# Altium schematic symbol library 封装库.SchLib: 191 symbols (part 1 of 3)
Pins are listed as number, name and electrical type; pins without a type are passive.

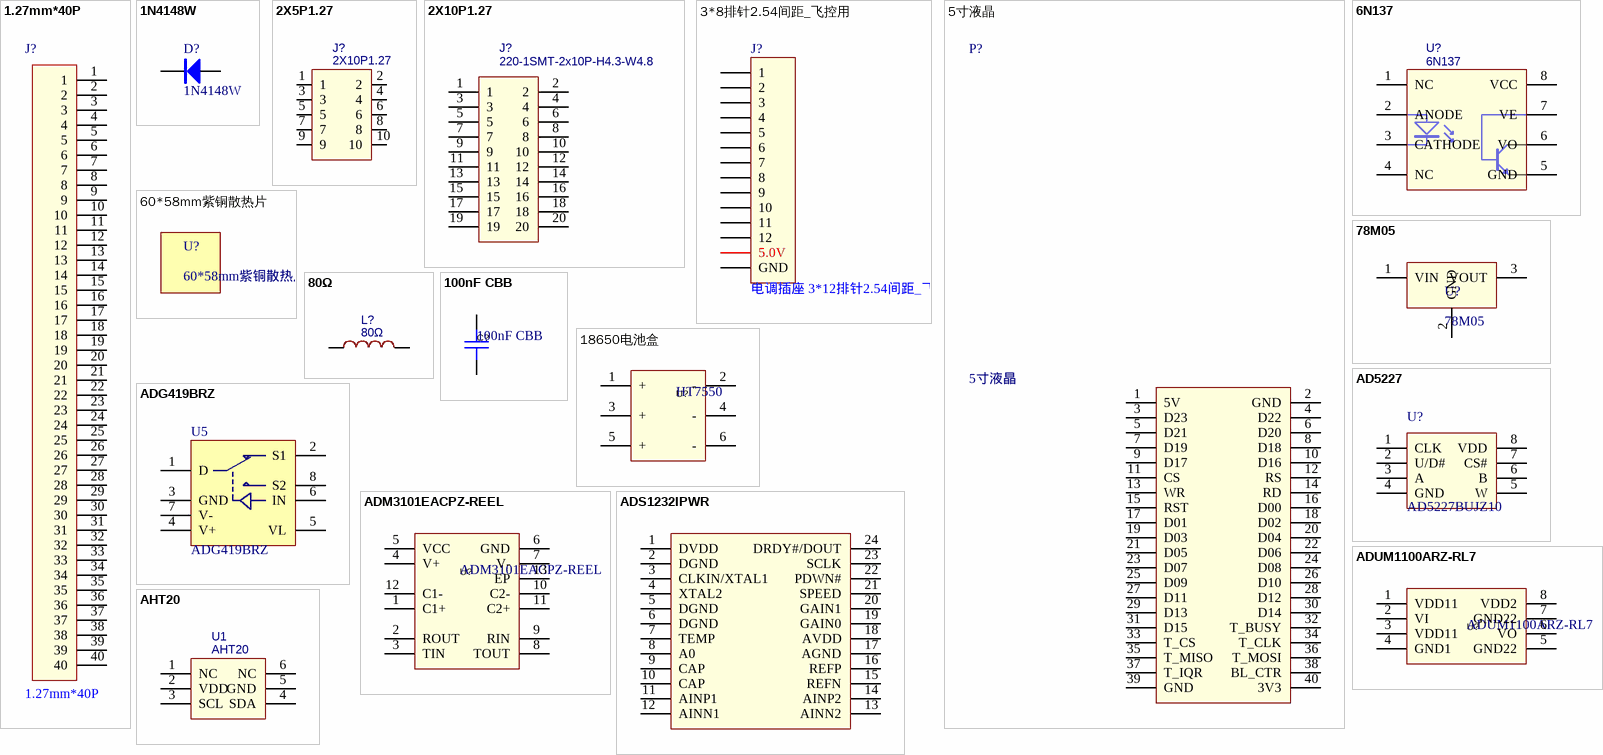
[diagram p0: symbols 1.27mm*40P to AHT20]

## 1.27mm*40P
designator J?
footprint HDR1.27-LI-40P (直插，脚距：1.27mm)
pins: 1, 2, 3, 4, 5, 6, 7, 8, 9, 10, 11, 12, 13, 14, 15, 16, 17, 18, 19, 20, 21, 22, 23, 24, 25, 26, 27, 28, 29, 30, 31, 32, 33, 34, 35, 36, 37, 38, 39, 40

## 1N4148W
designator D?
整流二极管; 版权归属: 源创客; BOM名称: 整流二极管; 学习资源: www.ooocke.com
footprint 1N4148W
pins: 1 A, 2 K

## 2X5P1.27
designator J?, comment 2X10P1.27
BOM_Manufacturer: 华宇创; BOM_Manufacturer Part: 2343U-205CNG1MNT01; Contributor: LCSC; BOM_Supplier: LCSC; BOM_Supplier Part: C350283; BOM_JLCPCB Part Class: Extended Part; spicePre: U; spiceSymbolName: 2343U-205CNG1MNT01
footprint HDR-SMD_10P-P1.27mm
pins: 1, 2, 3, 4, 5, 6, 7, 8, 9, 10

## 2X10P1.27
designator J?, comment 220-1SMT-2x10P-H4.3-W4.8
BOM_Manufacturer: Ckmtw; Contributor: LCSC; BOM_Supplier: LCSC; BOM_Manufacturer Part: 220-1SMT-2x10P-H4.3-W4.8; BOM_Supplier Part: C124397; BOM_JLCPCB Part Class: Extended Part; spicePre: H; spiceSymbolName: 220-1SMT-2x10P-H4.3-W4.8
footprint HDR-SMD_20P-P1.27-V-F-R2-C10-S1.27-LS5.5-1
pins: 1, 2, 3, 4, 5, 6, 7, 8, 9, 10, 11, 12, 13, 14, 15, 16, 17, 18, 19, 20

## 3*8排针2.54间距_飞控用
designator J?, comment 电调插座 3*12排针2.54间距_飞控用
footprint 3*8排针_2.54间距_飞控用
pins: 1, 2, 3, 4, 5, 6, 7, 8, 9, 10, 11, 12, 13 5.0V, 14 GND

## 5寸液晶
designator P?
2.54 2x20P
footprint 5寸液晶屏
pins: 1 5V, 2 GND, 3 D23, 4 D22, 5 D21, 6 D20, 7 D19, 8 D18, 9 D17, 10 D16, 11 CS, 12 RS, 13 WR, 14 RD, 15 RST, 16 D00, 17 D01, 18 D02, 19 D03, 20 D04, 21 D05, 22 D06, 23 D07, 24 D08, 25 D09, 26 D10, 27 D11, 28 D12, 29 D13, 30 D14, 31 D15, 32 T_BUSY, 33 T_CS, 34 T_CLK, 35 T_MISO, 36 T_MOSI, 37 T_IQR, 38 BL_CTR, 39 GND, 40 3V3

## 6N137
designator U?
BOM_Manufacturer: CT Micro International; BOM_Manufacturer Part: 6N137(S)(T1); Contributor: LCSC; BOM_Supplier: LCSC; BOM_Supplier Part: C191867; BOM_JLCPCB Part Class: Extended Part; spicePre: U; spiceSymbolName: 6N137(S)(T1)
footprint 6N137
pins: 1 NC, 2 ANODE, 3 CATHODE, 4 NC, 5 GND, 6 VO, 7 VE, 8 VCC

## 60*58mm紫铜散热片
designator U?
footprint 散热片

## 78M05
designator U?
footprint TO-252
pins: 1 VIN, 2 GND, 3 VOUT

## 80Ω
designator L?
UPZ2012D800-4R0TF; BOM_Manufacturer: Sunlord; nameAlias: Value; Contributor: LCSC; BOM_Supplier: LCSC; BOM_Manufacturer Part: UPZ2012D800-4R0TF; BOM_Supplier Part: C145060; BOM_JLCPCB Part Class: Extended Part; spicePre: L; spiceSymbolName: UPZ2012D800-4R0TF
footprint R0805
pins: 1, 2

## 100nF CBB
designator C?
Symbol: KP104J2J1501; Designer: U?; Device: KP104J2J1501
footprint 100nF CBB
pins: 1, 2

## 18650电池盒
designator U?, comment HT7550
Manufacturer: HXY MOSFET(华轩阳电子); Symbol: HT7550_C5451679; Add into BOM: yes; Output Type: 固定; Output Polarity: 正; Number of Outputs: 1; Maximum Input Voltage: 30V; Output Voltage: 5V; Output Current: 100mA; Name: HT7550; Device: HT7550_C5451679; LCSC Part Name: Vin:30V Vout:5.0V 100mA HT50; Supplier Part: C5451679; Manufacturer Part: HT7550; Supplier Footprint: SOT-23(TO-236); JLCPCB Part Class: Extended Part; Datasheet: https://atta.szlcsc.com/upload/public/pdf/source/20230427/EDFD9A298EC49F60311FA1BA47D94413.pdf; Supplier: LCSC; Convert to PCB: yes
footprint 18650电池盒-3节
pins: 1 +, 2 -, 3 +, 4 -, 5 +, 6 -

## AD5227
designator U?, comment AD5227BUJZ10
64-position digital potentiometer
footprint AD5227-TSOT-23-8
pins: 1 CLK, 2 U/D#, 3 A, 4 GND, 5 W, 6 B, 7 CS#, 8 VDD

## ADG419BRZ
designator U5
footprint ADG419BRZ-SOIC-8 (SOIC, 8-Leads, Body 5.0x4.0mm (max), Pitch 1.27mm, IPC Low Density)
pins: 1 D, 2 S1, 3 GND (power), 4 V+ (power), 5 VL (power), 6 IN, 7 V- (power), 8 S2

## ADM3101EACPZ-REEL
designator U?
Manufacturer: ADI(亚德诺)/LINEAR(凌特); Add into BOM: yes; Name: ADM3101EACPZ-REEL; Symbol: ADM3101EACPZ-REEL; Device: ADM3101EACPZ-REEL; LCSC Part Name: ADM3101EACPZ-REEL; Supplier Part: C514336; Manufacturer Part: ADM3101EACPZ-REEL; Supplier Footprint: LFCSP-12; JLCPCB Part Class: Extended Part; Datasheet: https://atta.szlcsc.com/upload/public/pdf/source/20200415/C514336_C2354D88DB0D2D31503B641F84715F51.pdf; Supplier: LCSC; Convert to PCB: yes
footprint LFCSP-12
pins: 1 C1+, 2 ROUT, 3 TIN, 4 V+, 5 VCC, 6 GND, 7 V-, 8 TOUT, 9 RIN, 10 C2-, 11 C2+, 12 C1-, 13 EP

## ADS1232IPWR
designator U?  (value not drawn)
Manufacturer: TI(德州仪器); Add into BOM: yes; Interface: SPI; differential input: 是; number of channels: 2; sampling frequency: 80Hz; resolution: 24位; Supply Voltage: 2.7V~5.3V; Name: ADS1232IPWR; Symbol: ADS1232IPW; Device: ADS1232IPWR; LCSC Part Name: ADS1232IPWR; Supplier Part: C27919; Manufacturer Part: ADS1232IPWR; Supplier Footprint: TSSOP-24; JLCPCB Part Class: Extended Part; Datasheet: http://www.ti.com/cn/lit/gpn/ads1232; Supplier: LCSC; Convert to PCB: yes; Operating Temperature: -40℃~+105℃
footprint TSSOP-24
pins: 1 DVDD, 2 DGND, 3 CLKIN/XTAL1, 4 XTAL2, 5 DGND, 6 DGND, 7 TEMP, 8 A0, 9 CAP, 10 CAP, 11 AINP1, 12 AINN1, 13 AINN2, 14 AINP2, 15 REFN, 16 REFP, 17 AGND, 18 AVDD, 19 GAIN0, 20 GAIN1, 21 SPEED, 22 PDWN#, 23 SCLK, 24 DRDY#/DOUT

## ADUM1100ARZ-RL7
designator U?
Manufacturer: ADI(亚德诺)/LINEAR(凌特); Add into BOM: yes; Isolation Technology: 磁隔离; Number of Channels: 1; Reverse channel: 0; Voltage Isolation or Not: 不带电压隔离; Isolation voltage: 2500Vrms; Data Rate: 25Mbps; Supply Voltage: 3V~5.5V; Name: ADUM1100ARZ-RL7; Symbol: ADUM1100ARZ-RL7; Device: ADUM1100ARZ-RL7; LCSC Part Name: ADUM1100ARZ-RL7; Supplier Part: C201193; Manufacturer Part: ADUM1100ARZ-RL7; Supplier Footprint: SOIC-8; JLCPCB Part Class: Extended Part; Datasheet: https://atta.szlcsc.com/upload/public/pdf/source/20180410/C201193_34207E6A0CC594F3AB0D0F551CC07A5C.pdf; Supplier: LCSC; Convert to PCB: yes; Applications: 通用; Forward Channel: 1; Operating Temperature: -
footprint SOIC-8
pins: 1 VDD11, 2 VI, 3 VDD11, 4 GND1, 5 GND22, 6 VO, 7 GND22, 8 VDD2

## AHT20
designator U1
C2757850,温湿度传感器; BOM_Manufacturer: 广州奥松; Contributor: LCSC; BOM_Supplier: LCSC; BOM_Supplier Part: C2757850; BOM_Manufacturer Part: AHT20; link: https://atta.szlcsc.com//upload/public/pdf/source/20200407/C503357_487829B2F97386053400E2E73B0ABB4D.pdf; BOM_JLCPCB Part Class: Extended Part; spicePre: U; spiceSymbolName: AHT20_C2757850
footprint AHT20
pins: 1 NC, 2 VDD, 3 SCL, 4 SDA, 5 GND, 6 NC

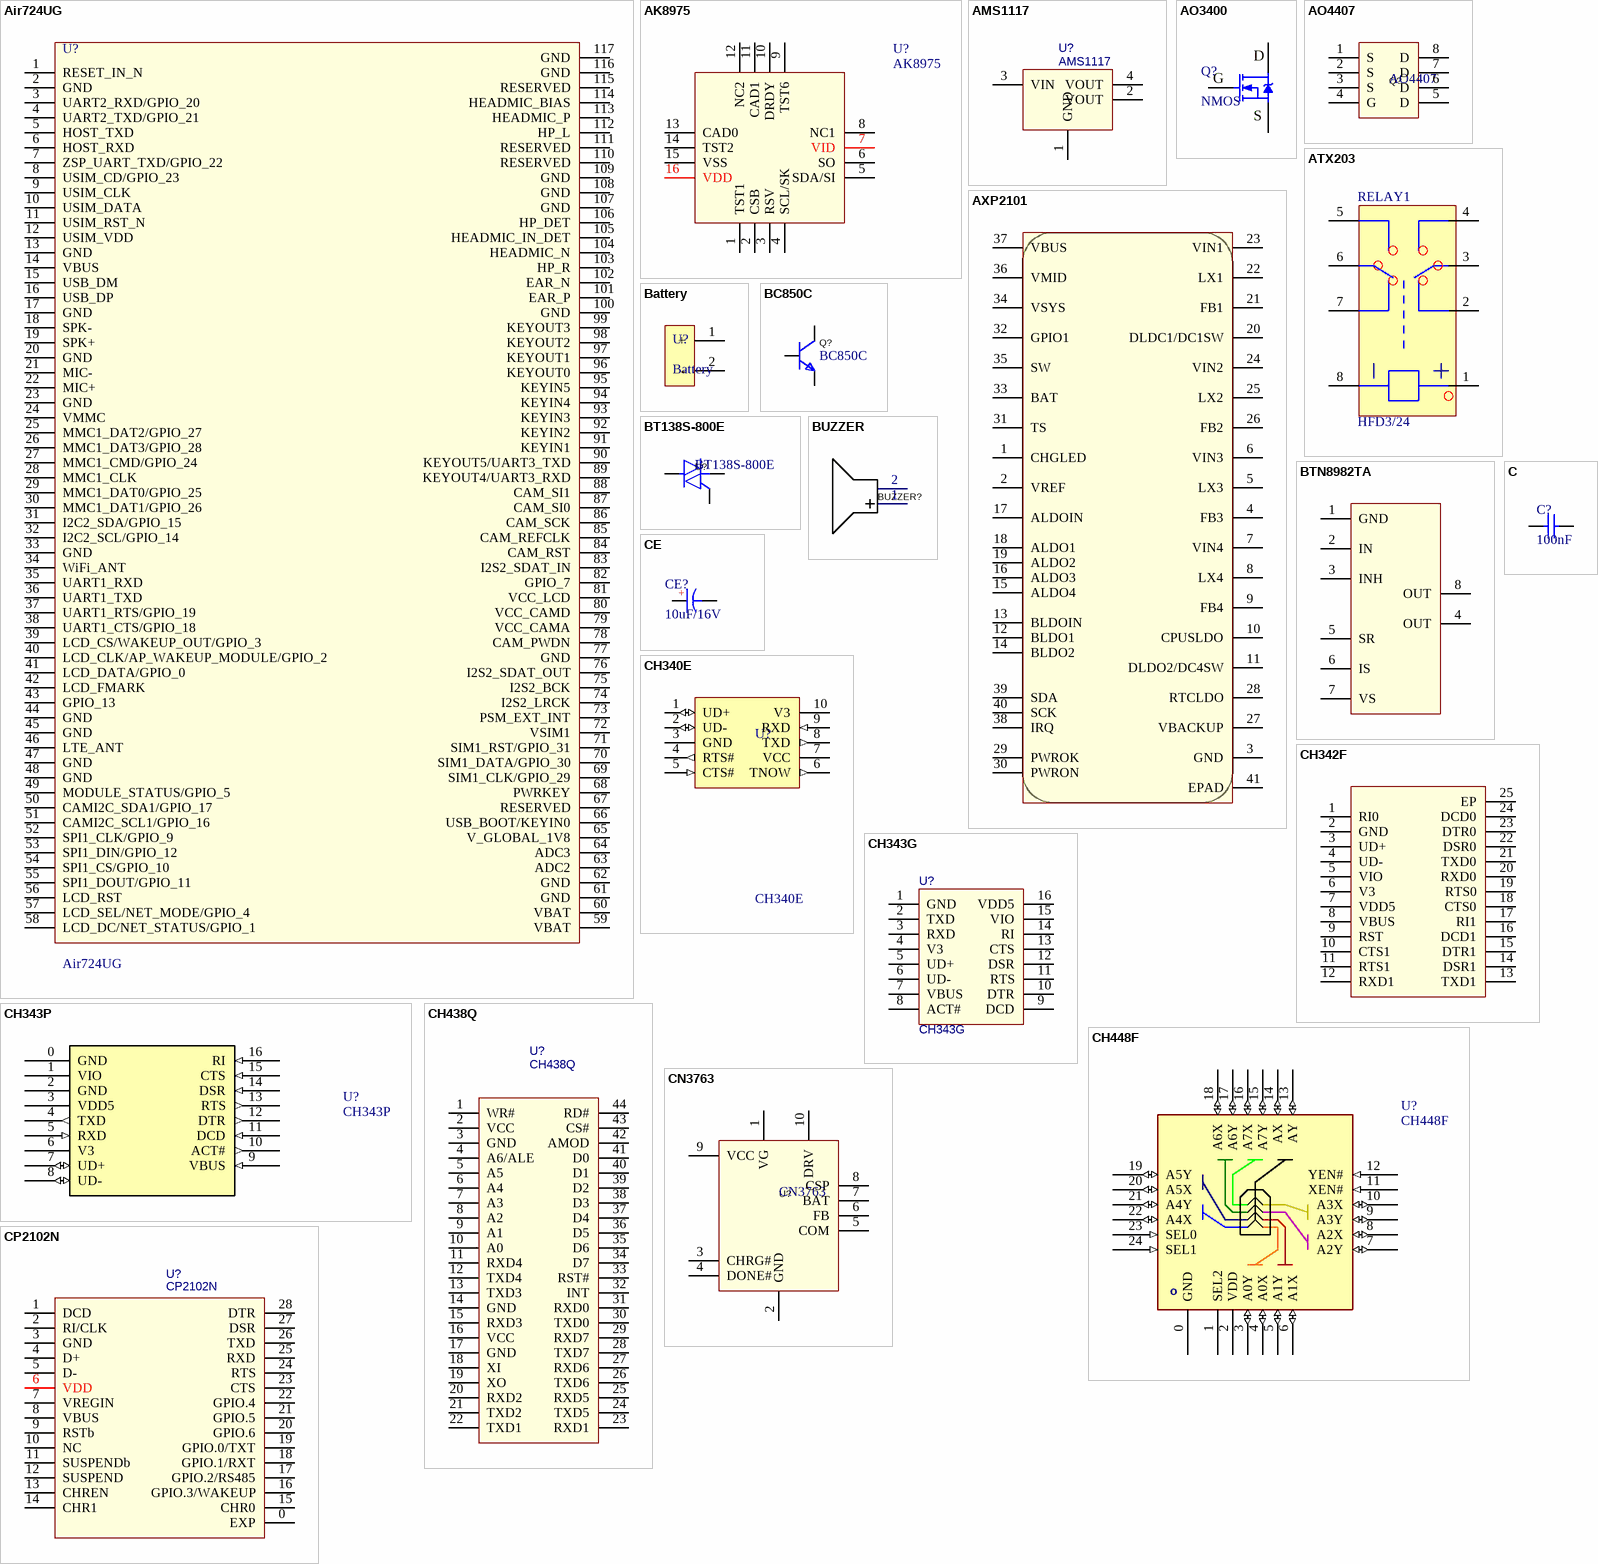
[diagram p1: symbols Air724UG to CP2102N]

## Air724UG
designator U?
Manufacturer: Luat(合宙); Symbol: AIR724UG-NA; Add into BOM: yes; Device: Air724UG-NA; LCSC Part Name: 合宙Luat 4G Cat.1模组Air724UG; Supplier Part: C559028; Manufacturer Part: Air724UG-NA; Supplier Footprint: SMD; JLCPCB Part Class: 扩展库; Supplier: LCSC; Convert to PCB: yes
footprint AIR724UG
pins: 1 RESET_IN_N, 2 GND, 3 UART2_RXD/GPIO_20, 4 UART2_TXD/GPIO_21, 5 HOST_TXD, 6 HOST_RXD, 7 ZSP_UART_TXD/GPIO_22, 8 USIM_CD/GPIO_23, 9 USIM_CLK, 10 USIM_DATA, 11 USIM_RST_N, 12 USIM_VDD, 13 GND, 14 VBUS, 15 USB_DM, 16 USB_DP, 17 GND, 18 SPK-, 19 SPK+, 20 GND, 21 MIC-, 22 MIC+, 23 GND, 24 VMMC, 25 MMC1_DAT2/GPIO_27, 26 MMC1_DAT3/GPIO_28, 27 MMC1_CMD/GPIO_24, 28 MMC1_CLK, 29 MMC1_DAT0/GPIO_25, 30 MMC1_DAT1/GPIO_26, 31 I2C2_SDA/GPIO_15, 32 I2C2_SCL/GPIO_14, 33 GND, 34 WiFi_ANT, 35 UART1_RXD, 36 UART1_TXD, 37 UART1_RTS/GPIO_19, 38 UART1_CTS/GPIO_18, 39 LCD_CS/WAKEUP_OUT/GPIO_3, 40 LCD_CLK/AP_WAKEUP_MODULE/GPIO_2, 41 LCD_DATA/GPIO_0, 42 LCD_FMARK, 43 GPIO_13, 44 GND, 45 GND, 46 LTE_ANT, 47 GND, 48 GND, 49 MODULE_STATUS/GPIO_5, 50 CAMI2C_SDA1/GPIO_17, 51 CAMI2C_SCL1/GPIO_16, 52 SPI1_CLK/GPIO_9, 53 SPI1_DIN/GPIO_12, 54 SPI1_CS/GPIO_10, 55 SPI1_DOUT/GPIO_11, 56 LCD_RST, 57 LCD_SEL/NET_MODE/GPIO_4, 58 LCD_DC/NET_STATUS/GPIO_1, 59 VBAT, 60 VBAT, 61 GND, 62 GND, 63 ADC2, 64 ADC3, 65 V_GLOBAL_1V8, 66 USB_BOOT/KEYIN0, 67 RESERVED, 68 PWRKEY, 69 SIM1_CLK/GPIO_29, 70 SIM1_DATA/GPIO_30, 71 SIM1_RST/GPIO_31, 72 VSIM1, 73 PSM_EXT_INT, 74 I2S2_LRCK, 75 I2S2_BCK, 76 I2S2_SDAT_OUT, 77 GND, 78 CAM_PWDN, 79 VCC_CAMA, 80 VCC_CAMD, 81 VCC_LCD, 82 GPIO_7, 83 I2S2_SDAT_IN, 84 CAM_RST, 85 CAM_REFCLK, 86 CAM_SCK, 87 CAM_SI0, 88 CAM_SI1, 89 KEYOUT4/UART3_RXD, 90 KEYOUT5/UART3_TXD, 91 KEYIN1, 92 KEYIN2, 93 KEYIN3, 94 KEYIN4, 95 KEYIN5, 96 KEYOUT0, 97 KEYOUT1, 98 KEYOUT2, 99 KEYOUT3, 100 GND, 101 EAR_P, 102 EAR_N, 103 HP_R, 104 HEADMIC_N, 105 HEADMIC_IN_DET, 106 HP_DET, 107 GND, 108 GND, 109 GND, 110 RESERVED, 111 RESERVED, 112 HP_L, 113 HEADMIC_P, 114 HEADMIC_BIAS, 115 RESERVED, 116 GND, 117 GND

## AK8975
designator U?
磁力计
footprint AK8975
pins: 1 TST1 "Open", 2 CSB, 3 RSV "Open", 4 SCL/SK, 5 SDA/SI, 6 SO, 7 VID, 8 NC1 "Open", 9 TST6 "Open", 10 DRDY "concent to interrupt or open", 11 CAD1 "Slave address select", 12 NC2 "Open", 13 CAD0 "Slave address select", 14 TST2 "open", 15 VSS "link to gnd", 16 VDD

## AMS1117
designator U?
BOM_Manufacturer: HX(恒佳兴); BOM_Manufacturer Part: AMS1117A-ADJ; Contributor: lcsc; BOM_Supplier: LCSC; BOM_Supplier Part: C2984864; spicePre: U; spiceSymbolName: AMS1117A-ADJ
footprint SOT-223 (SOT223, 4-Leads, Body 6.5x3.5mm, Pitch 2.3mm, Lead Span 7mm, IPC Medium Density)
pins: 1 GND, 2 VOUT, 3 VIN, 4 VOUT

## AO3400
designator Q?, comment NMOS
N沟道 30V/4.2A; BOM名称: 场效应管; 联系卖家，免费查找封装: 唯一出售店铺网址https://shop463601444.taobao.com; 参数: N沟道 30V/4.2A
footprint AO3400-SOT-23-3
pins: 1 G, 2 S, 3 D

## AO4407
designator Q?
Manufacturer: UMW(友台半导体); Name: AO4407A; Symbol: AO4407A_C2841482; Add into BOM: yes; Device: AO4407A_C2841482; LCSC Part Name: AO4407A; Supplier Part: C2841482; Manufacturer Part: AO4407A; Supplier Footprint: SOP-8; JLCPCB Part Class: Extended Part; Datasheet: https://atta.szlcsc.com/upload/public/pdf/source/20220926/8EBB8ABDBC276CD6D410CF8B1BF429E7.pdf; Supplier: LCSC; Convert to PCB: yes; Type: -; Drain Source Voltage (Vdss): -; Continuous Drain Current (Id): -; Power Dissipation (Pd): -; Drain Source On Resistance (RDS(on)@Vgs,Id): -; Gate Threshold Voltage (Vgs(th)@Id): -; Total Gate Charge (Qg@Vgs): -; Input Capacitance (Ciss@Vds): -; Reverse Transfer Capacitance (Crss@Vds): -
footprint AO4407 (Footprint not found)
pins: 1 S, 2 S, 3 S, 4 G, 5 D, 6 D, 7 D, 8 D

## ATX203
designator RELAY1, comment HFD3/24
footprint ATX203 (Footprint not found)
pins: 1 coila+, 2 coila+, 3 N0, 4 CENT, 5 CENT, 6 NC, 7 NC, 8 coila-

## AXP2101
designator U?  (value not drawn)
Add into BOM: yes; Symbol: AXP2101; Device: AXP2101; Convert to PCB: yes
footprint AXP2101 (QFN, 40-Leads, Body 5.00x5.00mm, Pitch 0.40mm, Thermal Pad 3.40x3.40mm, IPC Medium Density)
pins: 1 CHGLED, 2 VREF, 3 GND, 4 FB3, 5 LX3, 6 VIN3, 7 VIN4, 8 LX4, 9 FB4, 10 CPUSLDO, 11 DLDO2/DC4SW, 12 BLDO1, 13 BLDOIN, 14 BLDO2, 15 ALDO4, 16 ALDO3, 17 ALDOIN, 18 ALDO1, 19 ALDO2, 20 DLDC1/DC1SW, 21 FB1, 22 LX1, 23 VIN1, 24 VIN2, 25 LX2, 26 FB2, 27 VBACKUP, 28 RTCLDO, 29 PWROK, 30 PWRON, 31 TS, 32 GPIO1, 33 BAT, 34 VSYS, 35 SW, 36 VMID, 37 VBUS, 38 IRQ, 39 SDA, 40 SCK, 41 EPAD

## Battery
designator U?
footprint 锂电池焊盘
pins: 1 +, 2 -

## BC850C
designator Q?
footprint BC850C-SOT23-3
pins: 1 B, 2 E, 3 C

## BT138S-800E
designator U?
Designer: U?; Symbol: BT138S-800E; Device: BT138S-800E
footprint BT138S-800E
pins: 1 T1, 2 T2, 3 G

## BTN8982TA
designator U?  (value not drawn)
Manufacturer: Infineon(英飞凌); Symbol: BTN8982TAAUMA1; Add into BOM: yes; Name: BTN8982TA; Device: BTN8982TA; LCSC Part Name: BTN8982TA; Supplier Part: C74175; Manufacturer Part: BTN8982TA; Supplier Footprint: TO-263-7; JLCPCB Part Class: Extended Part; Datasheet: https://atta.szlcsc.com/upload/public/pdf/source/20220204/C2653440_702986052287C1B0960238BAE5FC3054.pdf; Supplier: LCSC; Convert to PCB: yes
footprint BTN8982
pins: 1 GND, 2 IN, 3 INH, 4 OUT, 5 SR, 6 IS, 7 VS, 8 OUT

## BUZZER
designator BUZZER?, comment YS-MBZ12085C05R42  (value not drawn)
Manufacturer: Fengming(锋鸣电子); Name: 2048Hz; Add into BOM: yes; Oscillator Circuit: 无源(外部驱动); Technology Type: 电磁式; Rated Voltage: 5V; Operating Voltage: 3V~7V; Value: 2048Hz; Sound Pressure Level (SPL): 85dB@5V,10cm; Symbol: YS-MBZ12085C05R42; Device: YS-MBZ12085C05R42; LCSC Part Name: 电磁式无源分体蜂鸣器5V; Supplier Part: C409842; Manufacturer Part: YS-MBZ12085C05R42; Supplier Footprint: 插件,D=12mm; JLCPCB Part Class: Extended Part; Datasheet: https://atta.szlcsc.com/upload/public/pdf/source/20191217/C409842_D981B29AAA35E8D23D61A24851812BB0.pdf; Supplier: LCSC; Convert to PCB: yes; Diameter (φD): 12mm; Height: 8.7mm
footprint beep (Footprint not found)
pins: 1 +, 2 -

## C
designator C?, comment 100nF
贴片电容; BOM名称: 无极性贴片电容; 联系卖家，免费查找封装: 唯一出售店铺网址https://shop463601444.taobao.com
footprint 0603-C
footprint 0805-C
footprint 1206-C
footprint 0402-C
footprint 1210-C (Chip Resistor, Body 3.2x2.5mm, IPC Medium Density)
footprint CBB212G104J
pins: 1, 2

## CE
designator CE?, comment 10uF/16V
直插电解电容; 联系卖家，免费查找封装: 唯一出售店铺网址https://shop463601444.taobao.com; BOM名称: 直插电解电容
footprint CE-3.5*8*11.5 (脚距3.5mm直径8mm高度11.5mm                   联系卖家 免费查找封装)
footprint CE-5.0*10*20-H (脚距5mm直径10mm高度20mm)
pins: 1, 2
text: +

## CH340E
designator U?
USB to TTL Serial / UART
footprint CH340E
pins: 1 UD+ (io), 2 UD- (io), 3 GND (power), 4 RTS# (out), 5 CTS# (in), 6 TNOW (out), 7 VCC (power), 8 TXD (out), 9 RXD (in), 10 V3 (power)

## CH342F
designator U?  (value not drawn)
Manufacturer: WCH(南京沁恒); Add into BOM: yes; Name: CH342F; Symbol: CH342F; Device: CH342F; LCSC Part Name: CH342F; Supplier Part: C2841530; Manufacturer Part: CH342F; Supplier Footprint: QFN24_4X4; JLCPCB Part Class: Extended Part; Datasheet: https://atta.szlcsc.com/upload/public/pdf/source/20211010/C2841530_D42D355CB13BEB69D3F27EE40180C477.pdf; Supplier: LCSC; Convert to PCB: yes
footprint CH342F
pins: 1 RI0, 2 GND, 3 UD+, 4 UD-, 5 VIO, 6 V3, 7 VDD5, 8 VBUS, 9 RST, 10 CTS1, 11 RTS1, 12 RXD1, 13 TXD1, 14 DSR1, 15 DTR1, 16 DCD1, 17 RI1, 18 CTS0, 19 RTS0, 20 RXD0, 21 TXD0, 22 DSR0, 23 DTR0, 24 DCD0, 25 EP

## CH343G
designator U?
BOM_Manufacturer: null; Contributor: LCSC; BOM_Supplier: LCSC; BOM_Supplier Part: C2844153; BOM_Manufacturer Part: CH343G; BOM_JLCPCB Part Class: Extended Part; spicePre: U; spiceSymbolName: CH343G
footprint ch343G (10.3*6.2*1.8mm（长宽高）)
pins: 1 GND, 2 TXD, 3 RXD, 4 V3, 5 UD+, 6 UD-, 7 VBUS, 8 ACT#, 9 DCD, 10 DTR, 11 RTS, 12 DSR, 13 CTS, 14 RI, 15 VIO, 16 VDD5

## CH343P
designator U?
USB to high speed enhanced TTL Serial / UART
footprint QFN16_3X3 (Footprint not found)
pins: 0 GND (power), 1 VIO (power), 2 GND (power), 3 VDD5 (power), 4 TXD (out), 5 RXD (in), 6 V3 (power), 7 UD+ (io), 8 UD- (io), 9 VBUS (in), 10 ACT# (out), 11 DCD (in), 12 DTR (out), 13 RTS (out), 14 DSR (in), 15 CTS (in), 16 RI (in)

## CH438Q
designator U?
可拓展8个串口的串口拓展芯片; BOM_Manufacturer: WCH; BOM_Supplier: LCSC; BOM_Manufacturer Part: CH438Q; BOM_Supplier Part: C100039; BOM_JLCPCB Part Class: Extended Part; spicePre: U; spiceSymbolName: CH438Q
footprint CH438Q
pins: 1 WR#, 2 VCC, 3 GND, 4 A6/ALE, 5 A5, 6 A4, 7 A3, 8 A2, 9 A1, 10 A0, 11 RXD4, 12 TXD4, 13 TXD3, 14 GND, 15 RXD3, 16 VCC, 17 GND, 18 XI, 19 XO, 20 RXD2, 21 TXD2, 22 TXD1, 23 RXD1, 24 TXD5, 25 RXD5, 26 TXD6, 27 RXD6, 28 TXD7, 29 RXD7, 30 TXD0, 31 RXD0, 32 INT, 33 RST#, 34 D7, 35 D6, 36 D5, 37 D4, 38 D3, 39 D2, 40 D1, 41 D0, 42 AMOD, 43 CS#, 44 RD#

## CH448F
designator U?
USB2.0 mux 8:1 / 16:1 Differential Switch, DPOT with dual enable
footprint QFN24_4X4
pins: 0 GND (power), 1 SEL2 (power), 2 VDD (power), 3 A0Y (io), 4 A0X (io), 5 A1Y (io), 6 A1X (io), 7 A2Y (io), 8 A2X (io), 9 A3Y (io), 10 A3X (io), 11 XEN# (in), 12 YEN# (in), 13 AY (io), 14 AX (io), 15 A7Y (io), 16 A7X (io), 17 A6Y (io), 18 A6X (io), 19 A5Y (io), 20 A5X (io), 21 A4Y (io), 22 A4X (io), 23 SEL0 (in), 24 SEL1 (in)
2 alternate drawings of the same symbol
text: o

## CN3763
designator U?
Manufacturer: CONSONANCE(上海如韵); Add into BOM: yes; Name: CN3763; Symbol: CN3763; Device: CN3763; LCSC Part Name: CN3763; Supplier Part: C84108; Manufacturer Part: CN3763; Supplier Footprint: SSOP-10-150mil; JLCPCB Part Class: Extended Part; Datasheet: https://atta.szlcsc.com/upload/public/pdf/source/20161009/1476002688439.pdf; Supplier: LCSC; Convert to PCB: yes
footprint CN3763 (Footprint not found)
pins: 1 VG, 2 GND, 3 CHRG#, 4 DONE#, 5 COM, 6 FB, 7 BAT, 8 CSP, 9 VCC, 10 DRV

## CP2102N
designator U?
CP2102N-A01-GQFN28; BOM_Manufacturer: SILICON LABS; Contributor: LCSC; BOM_Supplier: LCSC; BOM_Manufacturer Part: CP2102N-A01-GQFN28; BOM_Supplier Part: C105167; BOM_JLCPCB Part Class: Extended Part; spicePre: U; spiceSymbolName: CP2102N-A01-GQFN28
footprint CP2102N
pins: 0 EXP, 1 DCD, 2 RI/CLK, 3 GND, 4 D+, 5 D-, 6 VDD, 7 VREGIN, 8 VBUS, 9 RSTb, 10 NC, 11 SUSPENDb, 12 SUSPEND, 13 CHREN, 14 CHR1, 15 CHR0, 16 GPIO.3/WAKEUP, 17 GPIO.2/RS485, 18 GPIO.1/RXT, 19 GPIO.0/TXT, 20 GPIO.6, 21 GPIO.5, 22 GPIO.4, 23 CTS, 24 RTS, 25 RXD, 26 TXD, 27 DSR, 28 DTR

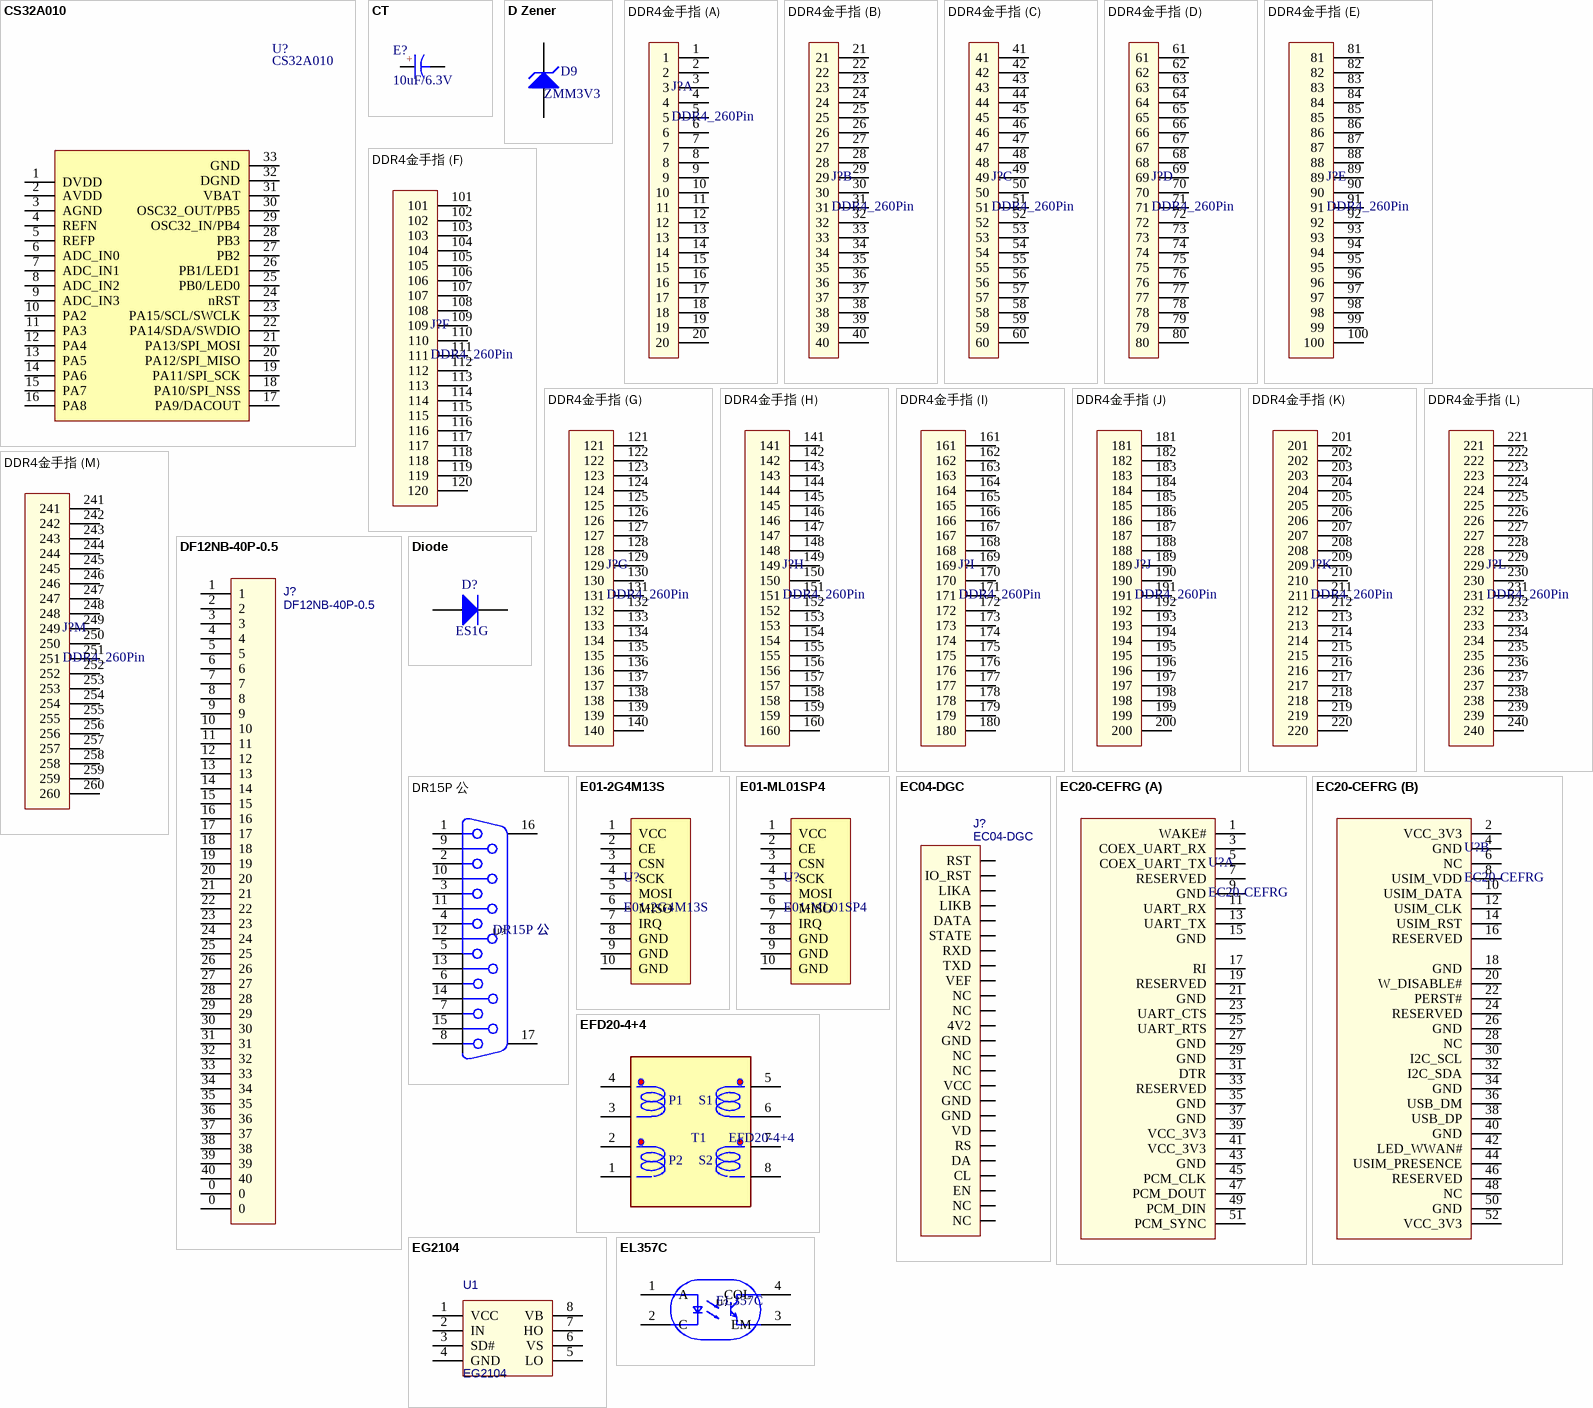
[diagram p2: symbols CS32A010 to EL357C]

## CS32A010
designator U?
footprint QFN32
pins: 1 DVDD, 2 AVDD, 3 AGND, 4 REFN, 5 REFP, 6 ADC_IN0, 7 ADC_IN1, 8 ADC_IN2, 9 ADC_IN3, 10 PA2, 11 PA3, 12 PA4, 13 PA5, 14 PA6, 15 PA7, 16 PA8, 17 PA9/DACOUT, 18 PA10/SPI_NSS, 19 PA11/SPI_SCK, 20 PA12/SPI_MISO, 21 PA13/SPI_MOSI, 22 PA14/SDA/SWDIO, 23 PA15/SCL/SWCLK, 24 nRST, 25 PB0/LED0, 26 PB1/LED1, 27 PB2, 28 PB3, 29 OSC32_IN/PB4, 30 OSC32_OUT/PB5, 31 VBAT, 32 DGND, 33 GND

## CT
designator E?, comment 10uF/6.3V
贴片钽电容; 联系卖家，免费查找封装: 唯一出售店铺网址https://shop463601444.taobao.com; BOM名称: 贴片钽电容
footprint CD A(3216) (长3.2mm，宽1.6mm，厚1.6mm)
footprint CD B(3528) (长3.5mm，宽2.8mm，厚1.9mm)
footprint CD C(6032) (长6.0mm，宽3.2mm，厚2.5mm)
footprint CD D(7343) (长7.3mm，宽4.3mm，厚2.8mm)
pins: 1 A, 2 K
text: +

## D Zener
designator D9, comment ZMM3V3
Zener Diode; Published: 8-Jun-2000; LatestRevisionDate: 17-Jul-2002; LatestRevisionNote: Re-released for DXP Platform.; PackageReference: DIODE-0.7; Publisher: Altium Limited
footprint D Zener
pins: 1 A, 2 K

## DDR4金手指
designator J?, comment DDR4_260Pin
footprint DDR4BJB-JM-H38
part A pins: 1, 2, 3, 4, 5, 6, 7, 8, 9, 10, 11, 12, 13, 14, 15, 16, 17, 18, 19, 20
part B pins: 21, 22, 23, 24, 25, 26, 27, 28, 29, 30, 31, 32, 33, 34, 35, 36, 37, 38, 39, 40
part C pins: 41, 42, 43, 44, 45, 46, 47, 48, 49, 50, 51, 52, 53, 54, 55, 56, 57, 58, 59, 60
part D pins: 61, 62, 63, 64, 65, 66, 67, 68, 69, 70, 71, 72, 73, 74, 75, 76, 77, 78, 79, 80
part E pins: 81, 82, 83, 84, 85, 86, 87, 88, 89, 90, 91, 92, 93, 94, 95, 96, 97, 98, 99, 100
part F pins: 101, 102, 103, 104, 105, 106, 107, 108, 109, 110, 111, 112, 113, 114, 115, 116, 117, 118, 119, 120
part G pins: 121, 122, 123, 124, 125, 126, 127, 128, 129, 130, 131, 132, 133, 134, 135, 136, 137, 138, 139, 140
part H pins: 141, 142, 143, 144, 145, 146, 147, 148, 149, 150, 151, 152, 153, 154, 155, 156, 157, 158, 159, 160
part I pins: 161, 162, 163, 164, 165, 166, 167, 168, 169, 170, 171, 172, 173, 174, 175, 176, 177, 178, 179, 180
part J pins: 181, 182, 183, 184, 185, 186, 187, 188, 189, 190, 191, 192, 193, 194, 195, 196, 197, 198, 199, 200
part K pins: 201, 202, 203, 204, 205, 206, 207, 208, 209, 210, 211, 212, 213, 214, 215, 216, 217, 218, 219, 220
part L pins: 221, 222, 223, 224, 225, 226, 227, 228, 229, 230, 231, 232, 233, 234, 235, 236, 237, 238, 239, 240
part M pins: 241, 242, 243, 244, 245, 246, 247, 248, 249, 250, 251, 252, 253, 254, 255, 256, 257, 258, 259, 260

## DF12NB-40P-0.5
designator J?
BOM_Manufacturer: Shenzhen Cankemeng; Contributor: LCSC; BOM_Supplier: LCSC; BOM_Supplier Part: C132511; BOM_Manufacturer Part: -; BOM_JLCPCB Part Class: Extended Part; spicePre: F; spiceSymbolName: FPC0.5-40P
footprint DF12NB-40DS-0.5V-母
footprint DF12NB-40DP-0.5V-公
pins: 0, 0, 1, 2, 3, 4, 5, 6, 7, 8, 9, 10, 11, 12, 13, 14, 15, 16, 17, 18, 19, 20, 21, 22, 23, 24, 25, 26, 27, 28, 29, 30, 31, 32, 33, 34, 35, 36, 37, 38, 39, 40

## Diode
designator D?, comment ES1G
Default Diode; Published: 8-Jun-2000; LatestRevisionDate: 17-Jul-2002; LatestRevisionNote: Re-released for DXP Platform.; PackageVersion: Sep-1996; PackageReference: SMC; Publisher: Altium Limited; PackageDescription: DO-214-AB/SMC; 2 C-Bend Leads; Body 7.9 x 5.9 mm, inc. leads (LxW); Code_JEDEC: DO-214-AB
footprint DO-214AC(SMA) (Molded Diode, 2-Leads, Body 4.3x2.7mm, IPC Low Density)
pins: 1 A, 2 K

## DR15P 公
designator U?
Manufacturer: BOOMELE(博穆精密); Name: DR15PW母 双排不带螺丝; Add into BOM: yes; Symbol: DR15PW母 双排不带螺丝; Device: DR15PW母 双排不带螺丝; LCSC Part Name: DR15PW母 双排 DR; Supplier Part: C686666; Manufacturer Part: DR15PW母 双排不带螺丝; Supplier Footprint: -; JLCPCB Part Class: Extended Part; Datasheet: https://atta.szlcsc.com/upload/public/pdf/source/20230309/7CC82B9ED45E002A0BF4C470619F8EC8.pdf; Supplier: LCSC; Convert to PCB: yes
footprint DB15-TH_15P-P2.77_SUB-DRBF-607A-000
pins: 1, 2, 3, 4, 5, 6, 7, 8, 9, 10, 11, 12, 13, 14, 15, 16 MH2, 17 MH1

## E01-2G4M13S
designator U?
贴片NREF24L01
footprint PE01-2G4M13S (23*14mm-S)
pins: 1 VCC, 2 CE, 3 CSN, 4 SCK, 5 MOSI, 6 MISO, 7 IRQ, 8 GND, 9 GND, 10 GND

## E01-ML01SP4
designator U?
贴片NREF24L01
footprint PE01-ML01SP4 (18mm*14.5mm*2.4mm-S)
pins: 1 VCC, 2 CE, 3 CSN, 4 SCK, 5 MOSI, 6 MISO, 7 IRQ, 8 GND, 9 GND, 10 GND

## EC04-DGC
designator J?
BOM_Manufacturer: BOOMELE; BOM_Manufacturer Part: 1.27mm/1*3p; BOM_Supplier: LCSC; BOM_Supplier Part: C24980; BOM_JLCPCB Part Class: Extended Part; spicePre: P; spiceSymbolName: 1.27mm/1*3p
footprint EC04-DGC
pins: 1 RST, 2 IO_RST, 3 LIKA, 4 LIKB, 5 DATA, 6 STATE, 7 RXD, 8 TXD, 9 VEF, 10 NC, 11 NC, 12 4V2, 13 GND, 14 NC, 15 NC, 16 VCC, 17 GND, 18 GND, 19 VD, 20 RS, 21 DA, 22 CL, 23 EN, 24 NC, 25 NC

## EC20-CEFRG
designator U?
footprint mini-PCI_E接口 (封装库来自淘宝卖家 ID：黄晶宝石)
part A pins: 1 WAKE#, 3 COEX_UART_RX, 5 COEX_UART_TX, 7 RESERVED, 9 GND, 11 UART_RX, 13 UART_TX, 15 GND, 17 RI, 19 RESERVED, 21 GND, 23 UART_CTS, 25 UART_RTS, 27 GND, 29 GND, 31 DTR, 33 RESERVED, 35 GND, 37 GND, 39 VCC_3V3, 41 VCC_3V3, 43 GND, 45 PCM_CLK, 47 PCM_DOUT, 49 PCM_DIN, 51 PCM_SYNC
part B pins: 2 VCC_3V3, 4 GND, 6 NC, 8 USIM_VDD, 10 USIM_DATA, 12 USIM_CLK, 14 USIM_RST, 16 RESERVED, 18 GND, 20 W_DISABLE#, 22 PERST#, 24 RESERVED, 26 GND, 28 NC, 30 I2C_SCL, 32 I2C_SDA, 34 GND, 36 USB_DM, 38 USB_DP, 40 GND, 42 LED_WWAN#, 44 USIM_PRESENCE, 46 RESERVED, 48 NC, 50 GND, 52 VCC_3V3

## EFD20-4+4
designator T1
footprint EFD20I-4+4
pins: 1, 2, 3, 4, 5, 6, 7, 8
text: P1; S1; P2; S2

## EG2104
designator U1
BOM_Manufacturer: EG Micro; Contributor: LCSC; BOM_Paste Type: expand; BOM_Supplier: LCSC; BOM_Supplier Part: C186697; BOM_Manufacturer Part: EG2104; spicePre: U; spiceSymbolName: EG2104
footprint EG2104
pins: 1 VCC, 2 IN, 3 SD#, 4 GND, 5 LO, 6 VS, 7 HO, 8 VB

## EL357C
designator U?
Manufacturer: UMW(友台半导体); Add into BOM: yes; Name: EL357C; Symbol: EL357C; Device: EL357C; LCSC Part Name: EL357C; Supplier Part: C725794; Manufacturer Part: EL357C; Supplier Footprint: SOP-4; JLCPCB Part Class: Extended Part; Datasheet: https://atta.szlcsc.com/upload/public/pdf/source/20211011/C80E5702CE32E1A80B8477F57AD5CDEA.pdf; Supplier: LCSC; Convert to PCB: yes; Product Type: -; Input Type: -; Number of Channels: -; Voltage-Isolation: -; Output-Voltage(Max): -; Output-Current(Max): -; Data Rate: -; Voltage-Supply: -
footprint EL357C (4.4*6.8*2.1mm（长宽高）)
pins: 1 A, 2 C, 3 EM, 4 COL

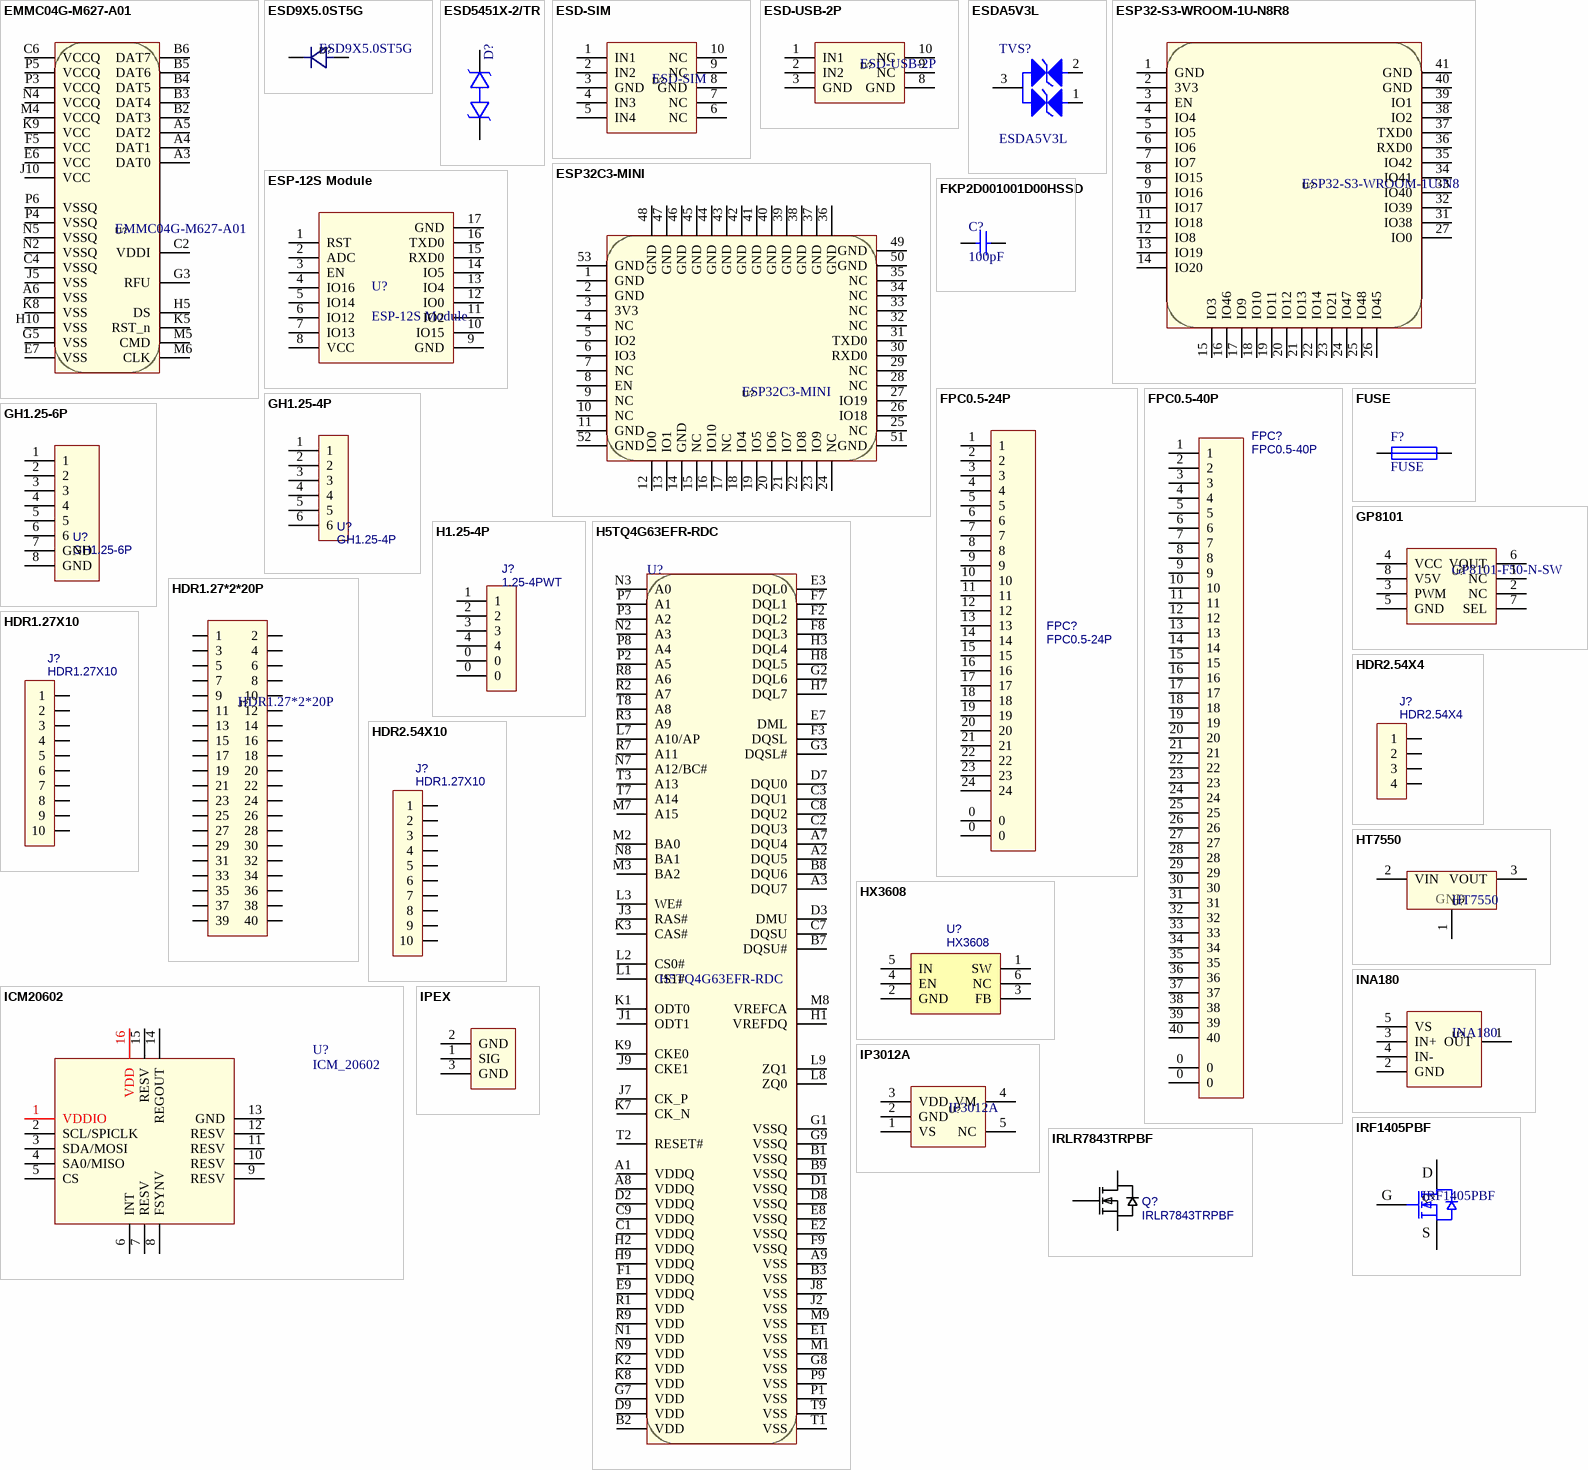
[diagram p3: symbols EMMC04G-M627-A01 to IRLR7843TRPBF]

## EMMC04G-M627-A01
designator U?
Manufacturer: Kingston(金士顿); Add into BOM: yes; Interface Type: eMMC 5.1; Sequential Read/Write (MB/s): 250/25 MB/s; Supply Voltage: 3.3V; Density: 4Gbit; Supplier Part: C577446; Manufacturer Part: EMMC04G-M627-A01; Supplier Footprint: FBGA-153; JLCPCB Part Class: Extended Part; Datasheet: https://atta.szlcsc.com/upload/public/pdf/source/20200608/C577446_53B77789B08755C8A702B5A787E17839.pdf; Supplier: LCSC; Convert to PCB: yes; configuration: -; Random Read/Write (IOPS): -; Operating Temperature: -25℃~+85℃; Symbol: EMMC04G-M627-A01; Device: EMMC04G-M627-A01; LCSC Part Name: eMMC 5.1 3.3V 4Gbit; Name: EMMC04G-M627-A01
footprint EMMC (BGA, 81-Leads, Body 11.50x13.00mmx1.00mm, Pitch 0.50mm)
pins: A3 DAT0, A4 DAT1, A5 DAT2, A6 VSS, B2 DAT3, B3 DAT4, B4 DAT5, B5 DAT6, B6 DAT7, C2 VDDI, C4 VSSQ, C6 VCCQ, E6 VCC, E7 VSS, F5 VCC, G3 RFU, G5 VSS, H5 DS, H10 VSS, J5 VSS, J10 VCC, K5 RST_n, K8 VSS, K9 VCC, M4 VCCQ, M5 CMD, M6 CLK, N2 VSSQ, N4 VCCQ, N5 VSSQ, P3 VCCQ, P4 VSSQ, P5 VCCQ, P6 VSSQ

## ESD9X5.0ST5G
designator D?
Manufacturer: MSKSEMI(美森科); Symbol: ESD9X5.0ST5G_C3008066; Add into BOM: yes; Name: ESD9X5.0ST5G; Device: ESD9X5.0ST5G_C3008066; LCSC Part Name: ESD9X5.0ST5G; Supplier Part: C3008066; Manufacturer Part: ESD9X5.0ST5G; Supplier Footprint: SOD-923; JLCPCB Part Class: Extended Part; Datasheet: https://atta.szlcsc.com/upload/public/pdf/source/20220429/68E9B40153609821FAF30C4C48AA4713.pdf; Supplier: LCSC; Convert to PCB: yes
footprint ESD9X5.0ST5G
pins: 1 K, 2 A

## ESD5451X-2/TR
designator D?  (value not drawn)
Manufacturer: WILLSEMI(韦尔); Add into BOM: yes; Symbol: ESD5451X-2/TR; Device: ESD5451X-2/TR; LCSC Part Name: ESD5451X-2/TR; Supplier Part: C239558; Manufacturer Part: ESD5451X-2/TR; Supplier Footprint: FBP-02C; JLCPCB Part Class: Extended Part; Datasheet: https://atta.szlcsc.com/upload/public/pdf/source/20180731/C239558_C05AB43FE9F81FDB8FB5B52538C9335A.pdf; Supplier: LCSC; Convert to PCB: yes
footprint FBP-02C_L1.0-W0.6-RD
pins: 1, 2

## ESD-SIM
designator D?
RClamp0524PATCT; Manufacturer: SEMTECH; Device: RClamp0524PATCT_C40960; Add into BOM: yes; Reverse Stand-Off Voltage (Vrwm): 5V; Breakdown Voltage (VBR): 6V; Clamping Voltage@Ipp: 15V; Peak Pulse Power(Ppp)@8/20us: 150W; Junction Capacitance(Cj)@1MHz: 0.8pF@1MHz; Name: RClamp0524PATCT; Symbol: RClamp0524PATCT; LCSC Part Name: RClamp0524PATCT; Supplier Part: C40960; Manufacturer Part: RClamp0524PATCT; Supplier Footprint: SLP2510P8; JLCPCB Part Class: Extended Part; Datasheet: https://atta.szlcsc.com/upload/public/pdf/source/20150124/1457707260739.pdf; Supplier: LCSC; Convert to PCB: yes; Operating Temperature: -55℃~+125℃@(Tj)
footprint SLP2510P8
pins: 1 IN1, 2 IN2, 3 GND, 4 IN3, 5 IN4, 6 NC, 7 NC, 8 GND, 9 NC, 10 NC

## ESD-USB-2P
designator D?
RClamp0522PATCT; Manufacturer: SEMTECH; Name: RClamp0524PATCT; Device: RClamp0524PATCT_C40960; Add into BOM: yes; Reverse Stand-Off Voltage (Vrwm): 5V; Breakdown Voltage (VBR): 6V; Clamping Voltage@Ipp: 15V; Peak Pulse Power(Ppp)@8/20us: 150W; Junction Capacitance(Cj)@1MHz: 0.8pF@1MHz; Symbol: RClamp0524PATCT; LCSC Part Name: RClamp0524PATCT; Supplier Part: C40960; Manufacturer Part: RClamp0524PATCT; Supplier Footprint: SLP2510P8; JLCPCB Part Class: Extended Part; Datasheet: https://atta.szlcsc.com/upload/public/pdf/source/20150124/1457707260739.pdf; Supplier: LCSC; Convert to PCB: yes; Operating Temperature: -55℃~+125℃@(Tj)
footprint SLP2510P8-2P
pins: 1 IN1, 2 IN2, 3 GND, 8 GND, 9 NC, 10 NC

## ESDA5V3L
designator TVS?
footprint ESDA5V3L
pins: 1 K, 2 A, 3 K

## ESP32-S3-WROOM-1U-N8R8
designator U?, comment ESP32-S3-WROOM-1U-N8
Manufacturer: ESPRESSIF(乐鑫); Add into BOM: yes; Name: ESP32-S3-WROOM-1U-N8; Symbol: ESP32-S3-WROOM-1U-N8; Device: ESP32-S3-WROOM-1U-N8; LCSC Part Name: ESP32-S3-WROOM-1U-N8; Supplier Part: C2980297; Manufacturer Part: ESP32-S3-WROOM-1U-N8; Supplier Footprint: SMD; JLCPCB Part Class: Extended Part; Datasheet: https://atta.szlcsc.com/upload/public/pdf/source/20220628/A2AC12B3C87735CAEB7EBE2DBE80936C.pdf; Supplier: LCSC; Convert to PCB: yes
footprint WIRELM-SMD_ESP32-S3-WROOM-1U
pins: 1 GND, 2 3V3, 3 EN, 4 IO4, 5 IO5, 6 IO6, 7 IO7, 8 IO15, 9 IO16, 10 IO17, 11 IO18, 12 IO8, 13 IO19, 14 IO20, 15 IO3, 16 IO46, 17 IO9, 18 IO10, 19 IO11, 20 IO12, 21 IO13, 22 IO14, 23 IO21, 24 IO47, 25 IO48, 26 IO45, 27 IO0, 31 IO38, 32 IO39, 33 IO40, 34 IO41, 35 IO42, 36 RXD0, 37 TXD0, 38 IO2, 39 IO1, 40 GND, 41 GND

## ESP32C3-MINI
designator U?
footprint ESP32-C3-MINI
pins: 1 GND, 2 GND, 3 3V3, 4 NC, 5 IO2, 6 IO3, 7 NC, 8 EN, 9 NC, 10 NC, 11 GND, 12 IO0, 13 IO1, 14 GND, 15 NC, 16 IO10, 17 NC, 18 IO4, 19 IO5, 20 IO6, 21 IO7, 22 IO8, 23 IO9, 24 NC, 25 NC, 26 IO18, 27 IO19, 28 NC, 29 NC, 30 RXD0, 31 TXD0, 32 NC, 33 NC, 34 NC, 35 NC, 36 GND, 37 GND, 38 GND, 39 GND, 40 GND, 41 GND, 42 GND, 43 GND, 44 GND, 45 GND, 46 GND, 47 GND, 48 GND, 49 GND, 50 GND, 51 GND, 52 GND, 53 GND

## ESP-12S Module
designator U?
footprint ESP-12S Module
pins: 1 RST, 2 ADC, 3 EN, 4 IO16, 5 IO14, 6 IO12, 7 IO13, 8 VCC, 9 GND, 10 IO15, 11 IO2, 12 IO0, 13 IO4, 14 IO5, 15 RXD0, 16 TXD0, 17 GND

## FKP2D001001D00HSSD
designator C?, comment 100pF
贴片电容; BOM名称: 无极性贴片电容; 联系卖家，免费查找封装: 唯一出售店铺网址https://shop463601444.taobao.com
footprint FKP2D001001D00HSSD
pins: 1, 2

## FPC0.5-24P
designator FPC?
BOM_Manufacturer: Shenzhen Cankemeng; Contributor: LCSC; BOM_Supplier: LCSC; BOM_Supplier Part: C132514; BOM_Manufacturer Part: -; BOM_JLCPCB Part Class: Extended Part; spicePre: F; spiceSymbolName: FPC0.5-24P
footprint FPC-SMD_P0.50-24P_XJ-FGS
pins: 0, 0, 1, 2, 3, 4, 5, 6, 7, 8, 9, 10, 11, 12, 13, 14, 15, 16, 17, 18, 19, 20, 21, 22, 23, 24

## FPC0.5-40P
designator FPC?
BOM_Manufacturer: Shenzhen Cankemeng; Contributor: LCSC; BOM_Supplier: LCSC; BOM_Supplier Part: C132511; BOM_Manufacturer Part: -; BOM_JLCPCB Part Class: Extended Part; spicePre: F; spiceSymbolName: FPC0.5-40P
footprint FPC-SMD_P0.50-40P
pins: 0, 0, 1, 2, 3, 4, 5, 6, 7, 8, 9, 10, 11, 12, 13, 14, 15, 16, 17, 18, 19, 20, 21, 22, 23, 24, 25, 26, 27, 28, 29, 30, 31, 32, 33, 34, 35, 36, 37, 38, 39, 40

## FUSE
designator F?
自恢复保险丝
footprint 0805-R
pins: 1, 2

## GH1.25-4P
designator U?
GH1.25-4PWBPZ; BOM_Manufacturer: BOOMELE(博穆精密); Contributor: LCSC; BOM_Supplier: LCSC; BOM_Supplier Part: C2829253; BOM_Manufacturer Part: GH1.25-4PWBPZ; spicePre: U; spiceSymbolName: GH1.25-4PWBPZ
footprint CONN-SMD_GH1.25-4PWBPZ
pins: 1, 2, 3, 4, 5, 6

## GH1.25-6P
designator U?
GH1.25-4PWBPZ; BOM_Manufacturer: BOOMELE(博穆精密); Contributor: LCSC; BOM_Supplier: LCSC; BOM_Supplier Part: C2829253; BOM_Manufacturer Part: GH1.25-4PWBPZ; spicePre: U; spiceSymbolName: GH1.25-4PWBPZ
footprint CONN-SMD_A1257WR-S-6P
pins: 1, 2, 3, 4, 5, 6, 7 GND, 8 GND

## GP8101
designator U?, comment GP8101-F50-N-SW
Manufacturer: Guestgood(客益); Add into BOM: yes; Name: GP8101-F50-N-SW; Symbol: GP8101-F50-N-SW; Device: GP8101-F50-N-SW; LCSC Part Name: PWM信号转模拟信号; Supplier Part: C2837700; Manufacturer Part: GP8101-F50-N-SW; Supplier Footprint: SOP-8; JLCPCB Part Class: Extended Part; Datasheet: https://atta.szlcsc.com/upload/public/pdf/source/20210611/C2837700_5745B92228C5F82B1AB008370DF8AE30.pdf; Supplier: LCSC; Convert to PCB: yes
footprint GP8101 (5*6*1.8mm（长宽高）封装库来自淘宝卖家 ID：黄晶宝石)
pins: 1 NC, 2 NC, 3 PWM, 4 VCC, 5 GND, 6 VOUT, 7 SEL, 8 V5V

## H1.25-4P
designator J?, comment 1.25-4PWT
BOM_Manufacturer: FG(富港); Contributor: LCSC; BOM_Supplier: LCSC; BOM_Supplier Part: C2763632; BOM_Manufacturer Part: 1.25-4PWT; JLCPCB Part Class: Extended Part; spicePre: C; spiceSymbolName: 1.25-4PWT
footprint H1.25-4P
pins: 0, 0, 1, 2, 3, 4

## H5TQ4G63EFR-RDC
designator U?
Manufacturer: HYNIX(海力士); Pin Type: IN; Add into BOM: yes; Symbol: H5TQ4G63EFR-RDC; Device: H5TQ4G63EFR-RDC; Supplier: LCSC; Supplier Part: C2803259; Manufacturer Part: H5TQ4G63EFR-RDC; Convert to PCB: yes; JLCPCB Part Class: Extended Part
footprint DDR3
pins: A1 VDDQ, A2 DQU5, A3 DQU7, A7 DQU4, A8 VDDQ, A9 VSS, B1 VSSQ, B2 VDD, B3 VSS, B7 DQSU#, B8 DQU6, B9 VSSQ, C1 VDDQ, C2 DQU3, C3 DQU1, C7 DQSU, C8 DQU2, C9 VDDQ, D1 VSSQ, D2 VDDQ, D3 DMU, D7 DQU0, D8 VSSQ, D9 VDD, E1 VSS, E2 VSSQ, E3 DQL0, E7 DML, E8 VSSQ, E9 VDDQ, F1 VDDQ, F2 DQL2, F3 DQSL, F7 DQL1, F8 DQL3, F9 VSSQ, G1 VSSQ, G2 DQL6, G3 DQSL#, G7 VDD, G8 VSS, G9 VSSQ, H1 VREFDQ, H2 VDDQ, H3 DQL4, H7 DQL7, H8 DQL5, H9 VDDQ, J1 ODT1, J2 VSS, J3 RAS#, J7 CK_P, J8 VSS, J9 CKE1, K1 ODT0, K2 VDD, K3 CAS#, K7 CK_N, K8 VDD, K9 CKE0, L1 CS1#, L2 CS0#, L3 WE#, L7 A10/AP, L8 ZQ0, L9 ZQ1, M1 VSS, M2 BA0, M3 BA2, M7 A15, M8 VREFCA, M9 VSS, N1 VDD, N2 A3, N3 A0, N7 A12/BC#, N8 BA1, N9 VDD, P1 VSS, P2 A5, P3 A2, P7 A1, P8 A4, P9 VSS, R1 VDD, R2 A7, R3 A9, R7 A11, R8 A6, R9 VDD, T1 VSS, T2 RESET#, T3 A13, T7 A14, T8 A8, T9 VSS

## HDR1.27*2*20P
designator J?
Manufacturer: XKB Connectivity(中国星坤); Name: X1321WV-2x20J-C30D23; Add into BOM: yes; Pitch: 1.27mm; Pin Structure: 2x20P; Circluar Pins/Square Pins: 方针; Current Rating (Max): 1A; Voltage Rating (Max): 250V; Welding Temperature (Max): 260℃; Symbol: X1321WV-2X20J-C30D23; Device: X1321WV-2x20J-C30D23; LCSC Part Name: 1.27mm 2x20P 直插 方针; Supplier Part: C2881802; Manufacturer Part: X1321WV-2x20J-C30D23; Supplier Footprint: 直插,P=1.27mm; JLCPCB Part Class: Extended Part; Datasheet: https://atta.szlcsc.com/upload/public/pdf/source/20211011/9B9D8E12A562FAA63AA34F6B7BD65D2A.pdf; Supplier: LCSC; Convert to PCB: yes; Number of Pins: 40; Number of Rows: 2; Row Spacing: 1.27mm; Mounting Type: 直插; Length of Mating Pin: 3mm; Insulation Height: 1mm; Length of End Connection Pin: 2.3mm; Contact Material: 黄铜; Contact Plating: 金; Operating Temperature Range: -40℃~+105℃
footprint HDR1.27*2*20
pins: 1, 2, 3, 4, 5, 6, 7, 8, 9, 10, 11, 12, 13, 14, 15, 16, 17, 18, 19, 20, 21, 22, 23, 24, 25, 26, 27, 28, 29, 30, 31, 32, 33, 34, 35, 36, 37, 38, 39, 40

## HDR1.27X10
designator J?
BOM_Manufacturer: BOOMELE; BOM_Manufacturer Part: 1.27mm/1*3p; BOM_Supplier: LCSC; BOM_Supplier Part: C24980; BOM_JLCPCB Part Class: Extended Part; spicePre: P; spiceSymbolName: 1.27mm/1*3p
footprint HDR1.27-LI-10P (直插，脚距：1.27mm)
pins: 1, 2, 3, 4, 5, 6, 7, 8, 9, 10

## HDR2.54X4
designator J?
BOM_Manufacturer: BOOMELE; BOM_Manufacturer Part: 1.27mm/1*3p; BOM_Supplier: LCSC; BOM_Supplier Part: C24980; BOM_JLCPCB Part Class: Extended Part; spicePre: P; spiceSymbolName: 1.27mm/1*3p
footprint HDR2.54-LI-4P (排针，4脚)
pins: 1, 2, 3, 4

## HDR2.54X10
designator J?, comment HDR1.27X10
BOM_Manufacturer: BOOMELE; BOM_Manufacturer Part: 1.27mm/1*3p; BOM_Supplier: LCSC; BOM_Supplier Part: C24980; BOM_JLCPCB Part Class: Extended Part; spicePre: P; spiceSymbolName: 1.27mm/1*3p
footprint HDR2.54-LI-10P (排针，10脚   淘宝ID:黄晶宝石   店铺网址:https://shop463601444.taobao.com)
pins: 1, 2, 3, 4, 5, 6, 7, 8, 9, 10

## HT7550
designator U?
Manufacturer: HXY MOSFET(华轩阳电子); Symbol: HT7550_C5451679; Add into BOM: yes; Output Type: 固定; Output Polarity: 正; Number of Outputs: 1; Maximum Input Voltage: 30V; Output Voltage: 5V; Output Current: 100mA; Name: HT7550; Device: HT7550_C5451679; LCSC Part Name: Vin:30V Vout:5.0V 100mA HT50; Supplier Part: C5451679; Manufacturer Part: HT7550; Supplier Footprint: SOT-23(TO-236); JLCPCB Part Class: Extended Part; Datasheet: https://atta.szlcsc.com/upload/public/pdf/source/20230427/EDFD9A298EC49F60311FA1BA47D94413.pdf; Supplier: LCSC; Convert to PCB: yes
footprint HT7550-SOT-23-3
pins: 1 GND, 2 VIN, 3 VOUT

## HX3608
designator U?
BOM_Manufacturer: AEROSEMI; BOM_Manufacturer Part: MT3608; BOM_Supplier: LCSC; BOM_Supplier Part: C84817; BOM_JLCPCB Part Class: Extended Part; spicePre: U; spiceSymbolName: MT3608
footprint SOT-23-6 (SOT-23, 6-Leads, Body 2.90x1.60mm, Pitch 0.95mm, IPC High Density)
pins: 1 SW, 2 GND, 3 FB, 4 EN, 5 IN, 6 NC

## ICM20602
designator U?, comment ICM_20602
陀螺仪+加速度计
footprint ICM20602 (QFN, 16-Leads, Body 3.00x3.00mm, Pitch 0.50mm, IPC Medium Density)
pins: 1 VDDIO, 2 SCL/SPICLK, 3 SDA/MOSI, 4 SA0/MISO, 5 CS, 6 INT, 7 RESV, 8 FSYNV, 9 RESV, 10 RESV, 11 RESV, 12 RESV, 13 GND, 14 REGOUT, 15 RESV, 16 VDD

## INA180
designator U?
电流感应放大器; Manufacturer: TI(德州仪器); Symbol: INA180A2IDBVT; Add into BOM: yes; Device: INA180A2IDBVT; LCSC Part Name: INA180A2IDBVT; Supplier Part: C116203; Manufacturer Part: INA180A2IDBVT; Supplier Footprint: SOT-23-5; JLCPCB Part Class: Extended Part; Datasheet: https://atta.szlcsc.com/upload/public/pdf/source/20180528/C116203_9FF638E47B976DAF22AF17BC43DF8DEF.pdf; Supplier: LCSC; Convert to PCB: yes
footprint INA180 (SOT23, 5-Leads, Body 2.9x1.6mm, Pitch 0.95mm, IPC Medium Density)
pins: 1 OUT, 2 GND, 3 IN+, 4 IN-, 5 VS

## IP3012A
designator U?
Manufacturer: INJOINIC(英集芯); Symbol: IP3012; Add into BOM: yes; Device: IP3012A; LCSC Part Name: 锂电保护; Supplier Part: C605435; Manufacturer Part: IP3012A; Supplier Footprint: SOT-23-5L; JLCPCB Part Class: Extended Part; Datasheet: https://atta.szlcsc.com/upload/public/pdf/source/20200610/C605435_EA0C00A0C2FC06334AFCEDB0E6B07573.pdf; Supplier: LCSC; Convert to PCB: yes; Battery Chemistry: -; Number of Cells: -; Charge Current - Max: -; Battery Pack Voltage: -; Voltage - Supply (Max): -; Interface: -
footprint IP3012A (SOT23, 5-Leads, Body 2.9x1.6mm, Pitch 0.95mm, IPC Medium Density)
pins: 1 VS, 2 GND, 3 VDD, 4 VM, 5 NC

## IPEX
designator RF?  (value not drawn)
Manufacturer: BAT WIRELESS(蝙蝠无线); Name: BWIPX-1-001E; Add into BOM: yes; Connector Type: 板端; Interface Type: 内针; Frequency-Max: 6GHz; Number of Ports: 1; Impedance: 50Ω; Symbol: BWIPX-1-001E; Device: BWIPX-1-001E; LCSC Part Name: IPEX 内针 IPEX内针 天线座 IPEX-1 IPEX1 1代; Supplier Part: C496552; Manufacturer Part: BWIPX-1-001E; Supplier Footprint: SMD; JLCPCB Part Class: Extended Part; Datasheet: https://atta.szlcsc.com/upload/public/pdf/source/20201223/C496552_05E5A9956EAE1A8819C5051D085B1DED.pdf; Supplier: LCSC; Convert to PCB: yes; Interface Diameter: -; RF Series: IPEX; Style: -; Interface Length/Height: -; Operating Temperature Range: -
footprint IPEX-SMD-1代
pins: 1 SIG, 2 GND, 3 GND

## IRF1405PBF
designator Q?
Manufacturer: Infineon(英飞凌); Add into BOM: yes; Type: N沟道; Drain Source Voltage (Vdss): 55V; Continuous Drain Current (Id): 169A; Power Dissipation (Pd): 330W; Drain Source On Resistance (RDS(on)@Vgs,Id): 5.3mΩ@10V,101A; Gate Threshold Voltage (Vgs(th)@Id): 4V@250μA; Symbol: IRF1405PBF; Device: IRF1405PBF; LCSC Part Name: N沟道 55V 169A; Supplier Part: C2559; Manufacturer Part: IRF1405PBF; Supplier Footprint: TO-220(TO-220-3); JLCPCB Part Class: Extended Part; Datasheet: https://atta.szlcsc.com/upload/public/pdf/source/20140820/1457707229711.pdf; Supplier: LCSC; Convert to PCB: yes
footprint IRF1405PBF_A (220，3脚晶体管  封装库来自淘宝卖家 ID：黄晶宝石)
footprint IRF1405PBF_B (220，3脚晶体管  封装库来自淘宝卖家 ID：黄晶宝石)
footprint IRF1405PBF_C (220，3脚晶体管  封装库来自淘宝卖家 ID：黄晶宝石)
pins: 1 G, 2 D, 3 S

## IRLR7843TRPBF
designator Q?
BOM_Manufacturer: IR; BOM_Supplier: LCSC; BOM_Manufacturer Part: IRLR7843TRPBF; BOM_Supplier Part: C21988; BOM_JLCPCB Part Class: Extended Part; spicePre: Q; spiceSymbolName: IRLR7843TRPBF
footprint LR7843
pins: 1 G, 3 S, 4 D

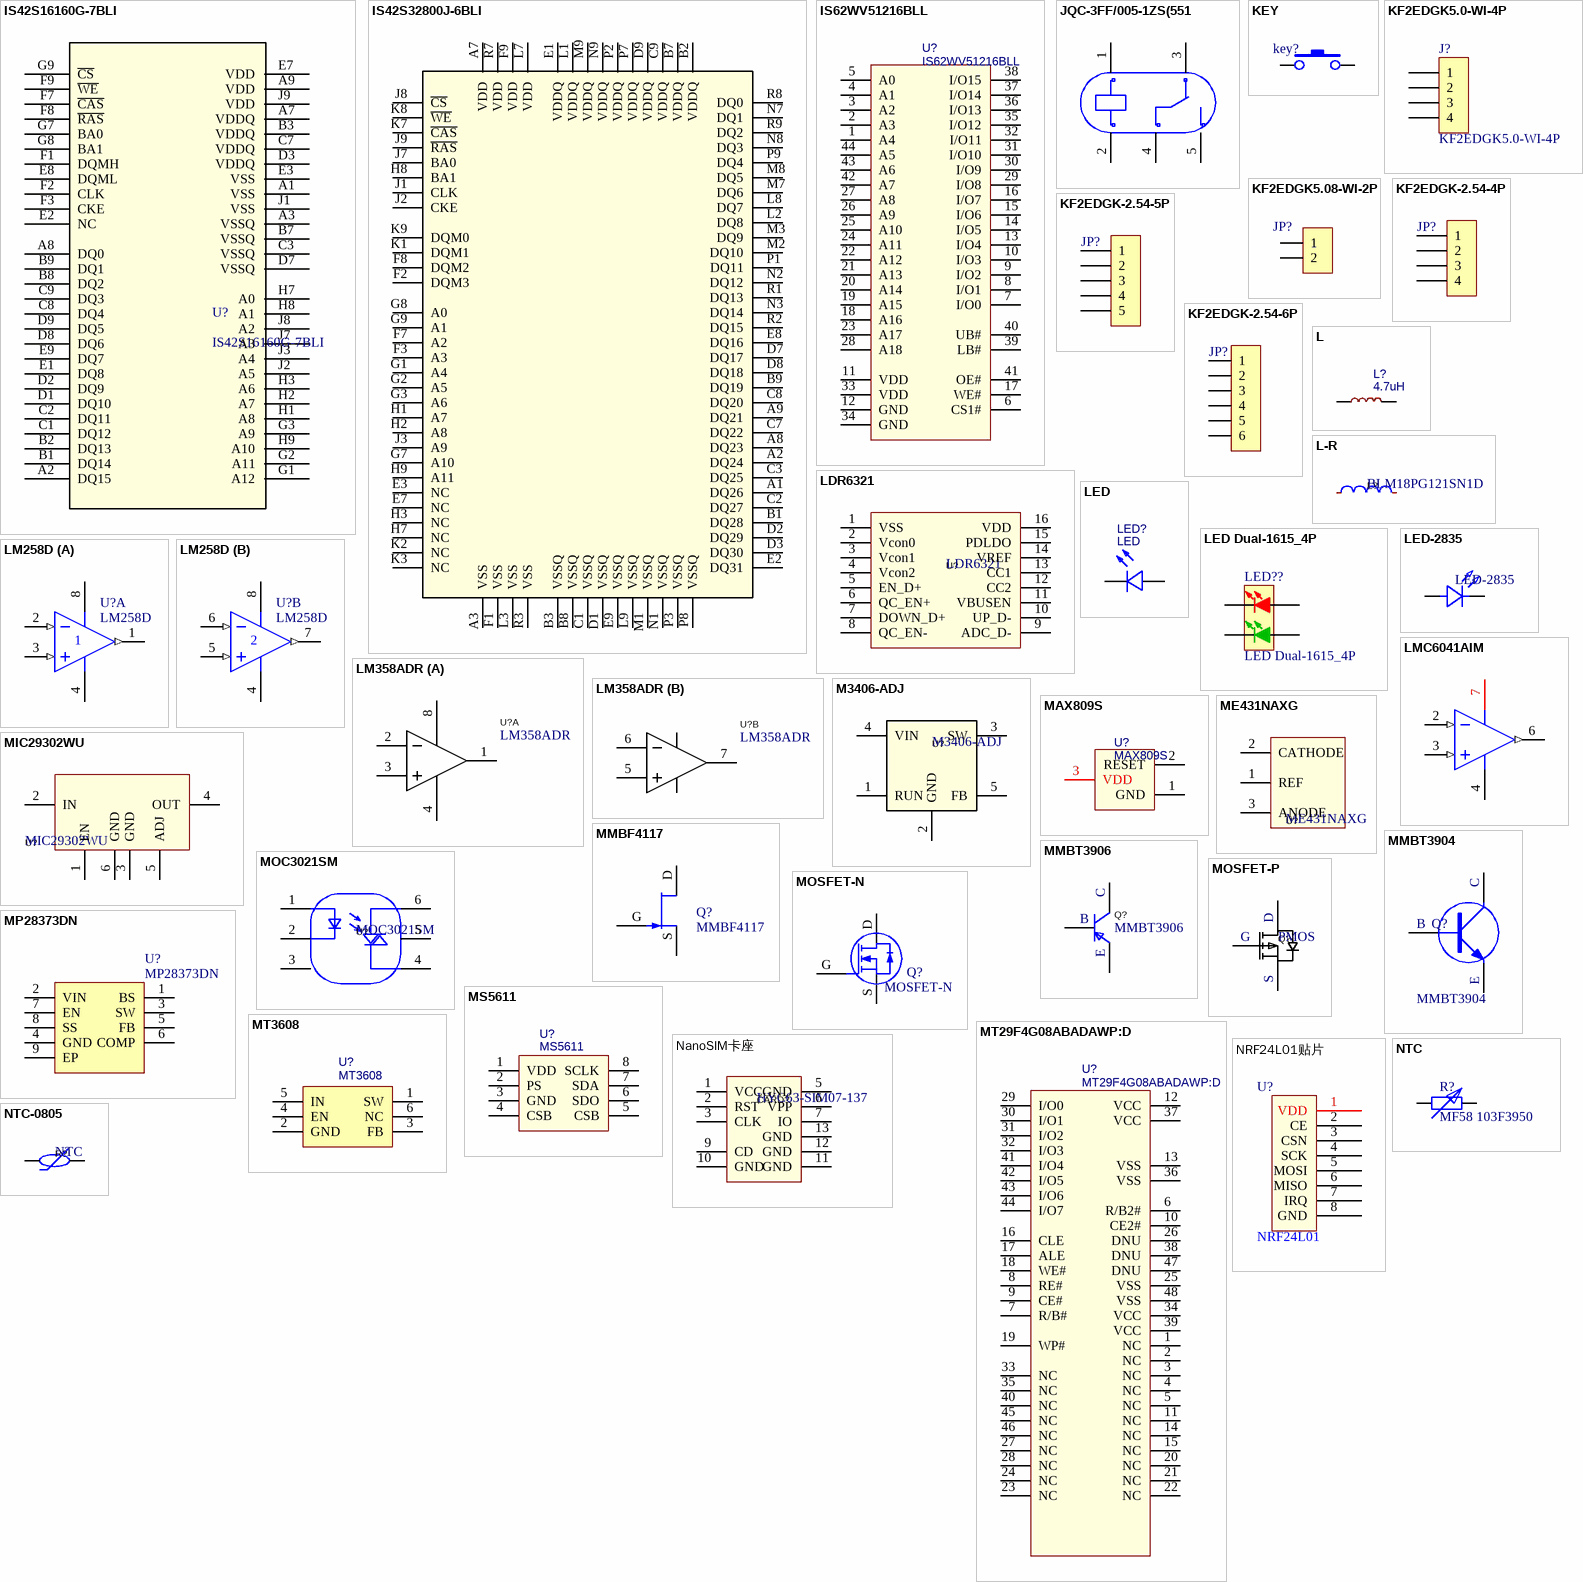
[diagram p4: symbols IS42S16160G-7BLI to NTC-0805]

## IS42S16160G-7BLI
designator U?
pins: A1 VSS, A2 DQ15, A3 VSSQ, A7 VDDQ, A8 DQ0, A9 VDD, B1 DQ14, B2 DQ13, B3 VDDQ, B7 VSSQ, B8 DQ2, B9 DQ1, C1 DQ12, C2 DQ11, C3 VSSQ, C7 VDDQ, C8 DQ4, C9 DQ3, D1 DQ10, D2 DQ9, D3 VDDQ, D7 VSSQ, D8 DQ6, D9 DQ5, E1 DQ8, E2 NC, E3 VSS, E7 VDD, E8 DQML, E9 DQ7, F1 DQMH, F2 CLK, F3 CKE, F7 ~{CAS}, F8 ~{RAS}, F9 ~{WE}, G1 A12, G2 A11, G3 A9, G7 BA0, G8 BA1, G9 ~{CS}, H1 A8, H2 A7, H3 A6, H7 A0, H8 A1, H9 A10, J1 VSS, J2 A5, J3 A4, J7 A3, J8 A2, J9 VDD

## IS42S32800J-6BLI
designator U?  (value not drawn)
Manufacturer: ISSI(美国芯成); Add into BOM: yes; Name: IS42S32800J-6BLI; Symbol: IS42S32800J-6BLI; Device: IS42S32800J-6BLI; LCSC Part Name: IS42S32800J 6BLI; Supplier Part: C1351419; Manufacturer Part: IS42S32800J-6BLI; Supplier Footprint: TFBGA-90(8x13); JLCPCB Part Class: Extended Part; Datasheet: https://atta.szlcsc.com/upload/public/pdf/source/20210202/C1349284_CA3CEC5602E4679D049D183769B21E3F.pdf; Supplier: LCSC; Convert to PCB: yes
footprint IS42S32800J-6BLI
pins: A1 DQ26, A2 DQ24, A3 VSS, A7 VDD, A8 DQ23, A9 DQ21, B1 DQ28, B2 VDDQ, B3 VSSQ, B7 VDDQ, B8 VSSQ, B9 DQ19, C1 VSSQ, C2 DQ27, C3 DQ25, C7 DQ22, C8 DQ20, C9 VDDQ, D1 VSSQ, D2 DQ29, D3 DQ30, D7 DQ17, D8 DQ18, D9 VDDQ, E1 VDDQ, E2 DQ31, E3 NC, E7 NC, E8 DQ16, E9 VSSQ, F1 VSS, F2 DQM3, F3 A3, F7 A2, F8 DQM2, F9 VDD, G1 A4, G2 A5, G3 A6, G7 A10, G8 A0, G9 A1, H1 A7, H2 A8, H3 NC, H7 NC, H8 BA1, H9 A11, J1 CLK, J2 CKE, J3 A9, J7 BA0, J8 ~{CS}, J9 ~{RAS}, K1 DQM1, K2 NC, K3 NC, K7 ~{CAS}, K8 ~{WE}, K9 DQM0, L1 VDDQ, L2 DQ8, L3 VSS, L7 VDD, L8 DQ7, L9 VSSQ, M1 VSSQ, M2 DQ10, M3 DQ9, M7 DQ6, M8 DQ5, M9 VDDQ, N1 VSSQ, N2 DQ12, N3 DQ14, N7 DQ1, N8 DQ3, N9 VDDQ, P1 DQ11, P2 VDDQ, P3 VSSQ, P7 VDDQ, P8 VSSQ, P9 DQ4, R1 DQ13, R2 DQ15, R3 VSS, R7 VDD, R8 DQ0, R9 DQ2

## IS62WV51216BLL
designator U?
存储器类型：Volatile 存储器容量：8Mb (512K x 16); BOM_Manufacturer: ISSI; BOM_Manufacturer Part: IS62WV51216BLL-55TLI; BOM_Supplier: LCSC; BOM_Supplier Part: C11315; BOM_JLCPCB Part Class: Extended Part; spicePre: U; spiceSymbolName: IS62WV51216BLL-55TLI
footprint IS62WV51216 (TSOP, 44-Leads, Body 18.42x10.16mm, Pitch 0.80mm, IPC Medium Density)
pins: 1 A4, 2 A3, 3 A2, 4 A1, 5 A0, 6 CS1#, 7 I/O0, 8 I/O1, 9 I/O2, 10 I/O3, 11 VDD, 12 GND, 13 I/O4, 14 I/O5, 15 I/O6, 16 I/O7, 17 WE#, 18 A16, 19 A15, 20 A14, 21 A13, 22 A12, 23 A17, 24 A11, 25 A10, 26 A9, 27 A8, 28 A18, 29 I/O8, 30 I/O9, 31 I/O10, 32 I/O11, 33 VDD, 34 GND, 35 I/O12, 36 I/O13, 37 I/O14, 38 I/O15, 39 LB#, 40 UB#, 41 OE#, 42 A7, 43 A6, 44 A5

## JQC-3FF/005-1ZS(551
designator K?, comment JQC-3FF/005-1ZS(551)  (value not drawn)
Manufacturer: HF(宏发); Symbol: JQC-3FF/05-1ZS(551); Add into BOM: yes; Coil Voltage: 5V; Coil Type: 非极化-单线圈; Pin Number: 5; Contact Form: 一组转换:1C(单刀双掷-转换); Maximum Switching Current: 10A; Maximum Switching Voltage: 277V@AC；30V@DC; Coil Rated Power: 360mW; Contact Rating: 10A@28VDC；10A@277VAC; Coil Resistance: 70Ω; Operate Time: 10ms; Release Time: 5ms; Contact Resistance: 100mΩ; Name: JQC-3FF/005-1ZS(551); Device: JQC-3FF/005-1ZS(551); LCSC Part Name: 超小型大功率5V继电器 单刀双掷; Supplier Part: C9221; Manufacturer Part: JQC-3FF/005-1ZS(551); Supplier Footprint: 插件,15.5x19mm; JLCPCB Part Class: Extended Part; Datasheet: https://atta.szlcsc.com/upload/public/pdf/source/20210906/31FD0911648F640D4227475E890A46EB.pdf; Supplier: LCSC; Convert to PCB: yes; Contact Material: AgCdO; Operating Temperature: -40℃~+85℃
footprint RELAY-TH_HF3FF-XX-1ZXX-XXX
pins: 1, 2, 3, 4, 5

## KEY
designator key?  (value not drawn)
footprint KEY
pins: 1, 2

## KF2EDGK5.0-WI-4P
designator J?
footprint KF2EDGK5.0-WI-4P (卧插端子)
pins: 1, 2, 3, 4

## KF2EDGK5.08-WI-2P
designator JP?  (value not drawn)
2P接插件; 联系卖家，免费技术支持: 唯一出售店铺网址https://shop463601444.taobao.com; BOM名称: 2P接插件
footprint KF2EDGK5.08-WI-2P (卧插端子)
pins: 1, 2

## KF2EDGK-2.54-4P
designator JP?  (value not drawn)
4P接插件; BOM名称: 6P接插件; 封装库来自淘宝卖家 ID：黄晶宝石: 其他店铺购入均为盗版假冒封装库; 联系卖家，免费查找封装: 唯一出售店铺网址https://shop463601444.taobao.com
footprint KF2EDGK-2.54-WI-4P (长：12.06mm，宽：10.1mm，高：8.1mm)
pins: 1, 2, 3, 4

## KF2EDGK-2.54-5P
designator JP?  (value not drawn)
5P接插件; BOM名称: 6P接插件; 封装库来自淘宝卖家 ID：黄晶宝石: 其他店铺购入均为盗版假冒封装库; 联系卖家，免费查找封装: 唯一出售店铺网址https://shop463601444.taobao.com
footprint KF2EDGK-2.54-WI-5P (长：14.6mm，宽：10.1mm，高：8.1mm)
pins: 1, 2, 3, 4, 5

## KF2EDGK-2.54-6P
designator JP?  (value not drawn)
6P接插件; 封装库来自淘宝卖家 ID：黄晶宝石: 其他店铺购入均为盗版假冒封装库; 联系卖家，免费查找封装: 唯一出售店铺网址https://shop463601444.taobao.com; BOM名称: 6P接插件
footprint KF2EDGK-2.54-WI-6P (长：17.1mm，宽：10.1mm，高：8.1mm)
footprint KF2EDGK-2.54-LI-6P (长：17.1mm，宽：8.1mm，高：10.1mm)
pins: 1, 2, 3, 4, 5, 6

## L
designator L?, comment 4.7uH
L; BOM_Manufacturer: Sunlord; BOM_Manufacturer Part: UPZ2012D800-4R0TF; nameAlias: Value; Contributor: LCSC; BOM_Supplier: LCSC; BOM_Supplier Part: C145060; BOM_JLCPCB Part Class: Extended Part; spicePre: L; spiceSymbolName: UPZ2012D800-4R0TF
footprint 10*10 4.7uH
footprint 电感 4.2X4.4
footprint 电感7*7*3
pins: 1, 2

## L-R
designator L?, comment BLM18PG121SN1D
Manufacturer: muRata(村田); Symbol: BLM18PG121SN1D_C14709; Add into BOM: yes; Impedance @ Frequency: 120Ω@100MHz; Tolerance: ±25%; DC Resistance: 50mΩ; Current Rating: 2A; Circuits: 1; Name: BLM18PG121SN1D; Device: BLM18PG121SN1D; LCSC Part Name: 120Ω@100MHz ±25%; Supplier Part: C14709; Manufacturer Part: BLM18PG121SN1D; Supplier Footprint: 0603; JLCPCB Part Class: Extended Part; Datasheet: https://atta.szlcsc.com/upload/public/pdf/source/20130704/1457706621134.pdf; Supplier: LCSC; Convert to PCB: yes
footprint 0603-L
pins: 1, 2

## LDR6321
designator U?
Manufacturer: Legendary(乐得瑞); Add into BOM: yes; Applications Function: USB充电芯片; Protocol: PD；QC；AFC; Number of Channels: 1; Supply Voltage: 3.3V~5V; Name: LDR6321; Symbol: LDR6321; Device: LDR6321; LCSC Part Name: 可自行设置最高9V,12V,15V,20V诱骗电压; Supplier Part: C2919632; Manufacturer Part: LDR6321; Supplier Footprint: SSOP-16-4.4mm; JLCPCB Part Class: Extended Part; Datasheet: https://atta.szlcsc.com/upload/public/pdf/source/20211112/6C547DE14631DD2A11892D79A9F4FADD.pdf; Supplier: LCSC; Convert to PCB: yes; Data Rate: -; Operating Temperature: -45℃~+85℃
footprint LDR6321 (Footprint not found)
pins: 1 VSS, 2 Vcon0, 3 Vcon1, 4 Vcon2, 5 EN_D+, 6 QC_EN+, 7 DOWN_D+, 8 QC_EN-, 9 ADC_D-, 10 UP_D-, 11 VBUSEN, 12 CC2, 13 CC1, 14 VREF, 15 PDLDO, 16 VDD

## LED
designator LED?
BOM_Manufacturer: Wuxi ARK Tech Elec; BOM_Manufacturer Part: D-G060306G1-KS2; Contributor: LCSC; BOM_Supplier: LCSC; BOM_Supplier Part: C118334; BOM_JLCPCB Part Class: Extended Part; spicePre: L; spiceSymbolName: D-G060306G1-KS2
footprint LED-0603
pins: 1 -, 2 +

## LED Dual-1615_4P
designator LED??
1615红绿双色LED; BOM名称: 三基色LED; 封装库来自淘宝卖家：黄晶宝石: 其他店铺购入均为盗版封装库，无更新权益，请立即申请退款，本店现金奖励200~1000元
footprint LED 1615_SMD_4P
pins: 1 RED_K, 2 RED_A, 3 GREEN_K, 4 GREEN__A

## LED-2835
designator U?
Manufacturer: HONGLITRONIC(鸿利光电); Name: A2835W3H2-D01-8D2AB5; Add into BOM: yes; Symbol: A2835W3H2-D01-8D2AB5; Device: A2835W3H2-D01-8D2AB5; LCSC Part Name: 2835自然白3800-4250K 高性价比; Supplier Part: C7423445; Manufacturer Part: A2835W3H2-D01-8D2AB5; Supplier Footprint: 2835; JLCPCB Part Class: Extended Part; Datasheet: https://atta.szlcsc.com/upload/public/pdf/source/20230608/811871640B6DA35415197D15B0ECD5AB.pdf; Supplier: LCSC; Convert to PCB: yes
footprint LED-SMD_L3.5-W2.8-FD-2835_WHITE
pins: 1 K, 2 A

## LM258D
designator U?
Dual Operational Amplifier; Published: 15-Apr-2002; LatestRevisionDate: 13-Apr-2006; LatestRevisionNote: IPC-7351 Footprint Added.; DatasheetVersion: Aug-1988; PackageVersion: Jan-1998; PackageReference: D008; Publisher: Altium Limited; PackageDescription: 8-Pin Small Outline Integrated Circuit 1.27 mm Pitch; Code_IPC: SOIC127P600-8; ComponentLink1Description: Manufacturer Link; ComponentLink1URL: http://www.ti.com/; ComponentLink2Description: Datasheet; ComponentLink2URL: http://www-s.ti.com/sc/ds/lm258.pdf
footprint LM258D-SOP-8 (SOIC, 8-Leads, Body 5.0x4.0mm (max), Pitch 1.27mm, IPC Low Density)
pins on every part: 4 V- (power), 8 V+ (power)
part A pins: 1 OUT (out), 2 IN- (in), 3 IN+ (in)
part B pins: 5 IN+ (in), 6 IN- (in), 7 OUT (out)

## LM358ADR
designator U?
C404320; Manufacturer: UMW(友台半导体); Symbol: LM358ADR_C404320; Add into BOM: yes; Name: LM358ADR; Device: LM358ADR_C404320; LCSC Part Name: LM358ADR; Supplier Part: C404320; Manufacturer Part: LM358ADR; Supplier Footprint: SOP-8; JLCPCB Part Class: Extended Part; Datasheet: https://atta.szlcsc.com/upload/public/pdf/source/20190717/C404320_CDF9B06F57A1ED6B2062B1EAF504095C.pdf; Supplier: LCSC; Convert to PCB: yes; Amplifier Type: -; Number of Circuits: -; -3db Bandwidth（G=1）: -; Current - Input Bias（Ib）: -; Voltage - Input Offset（Vos）: -; Gain Bandwidth Product（GBP）: -; Slew Rate（SR）: -; Output Type: -; Supply Voltage（Single）: -; Iq per channel (Typ): -; Operating Temperature: -
footprint LM358ADR (5*6*1.8mm（长宽高）封装库来自淘宝卖家 ID：黄晶宝石)
part A pins: 1 OUT A, 2 -IN A, 3 +IN A, 4 -V, 8 +V
part B pins: 5 +IN B, 6 -IN B, 7 OUT B

## LMC6041AIM
designator U?  (value not drawn)
Manufacturer: TI(德州仪器); Name: LMC6041AIMX/NOPB; Add into BOM: yes; Number of Circuits: 1; Current - Input Bias(Ib): 0.002pA; Gain Bandwidth Product(GBP): 75kHz; Slew Rate(SR): 0.02V/us; Symbol: LMC6041AIMX/NOPB; Device: LMC6041AIMX/NOPB; LCSC Part Name: LMC6041AIMX/NOPB; Supplier Part: C2058593; Manufacturer Part: LMC6041AIMX/NOPB; Supplier Footprint: SOP-8; JLCPCB Part Class: Extended Part; Datasheet: https://www.ti.com/cn/lit/gpn/lmc6041; Supplier: LCSC; Convert to PCB: yes; -3db Bandwidth: -; Output Current: -; Operating Temperature: -40℃~+85℃
footprint LMC6041-SOP-8 (5*6*1.8mm（长宽高）封装库来自淘宝卖家 ID：黄晶宝石)
pins: 2 IN- (in), 3 IN+ (in), 4 V- (power), 6 OUT (out), 7 V+ (power)

## M3406-ADJ
designator U?
Manufacturer: 西安航天民芯; Symbol: M3406; Add into BOM: yes; Function: 降压型; Name: M3406-ADJ; Device: M3406-ADJ; LCSC Part Name: 降压型; Supplier Part: C83224; Manufacturer Part: M3406-ADJ; Supplier Footprint: SOT-23-5; JLCPCB Part Class: Extended Part; Datasheet: https://atta.szlcsc.com/upload/public/pdf/source/20161110/1478742836232.pdf; Supplier: LCSC; Convert to PCB: yes; Synchronous Rectification: -; Number of Outputs: -; Topology: -; Input Voltage: -; Output Current (Max): -; Switching Frequency: -
footprint M3406-ADJ
pins: 1 RUN, 2 GND, 3 SW, 4 VIN, 5 FB

## MAX809S
designator U?
BOM_Manufacturer: Youtai Semiconductor Co., Ltd.; Contributor: LCSC; BOM_Supplier: LCSC; BOM_Supplier Part: C347371; BOM_Manufacturer Part: MAX809S; BOM_JLCPCB Part Class: Extended Part; spicePre: U; spiceSymbolName: MAX809S
footprint MAX809S
pins: 1 GND, 2 RESET, 3 VDD

## ME431NAXG
designator U?
电压基准芯片; Manufacturer: MICRONE(南京微盟); Add into BOM: yes; Symbol: ME431NAXG; Device: ME431NAXG; LCSC Part Name: ME431NAXG; Supplier Part: C427585; Manufacturer Part: ME431NAXG; Supplier Footprint: SOT-23; JLCPCB Part Class: Extended Part; Datasheet: https://atta.szlcsc.com/upload/public/pdf/source/20210812/77A2680EAEE2BD3F215F0BDBA8F6FF99.pdf; Supplier: LCSC; Convert to PCB: yes
footprint ME431AXG
pins: 1 REF, 2 CATHODE, 3 ANODE

## MIC29302WU
designator U?
Manufacturer: UMW(友台半导体); Symbol: MIC29302WU_C2995533; Add into BOM: yes; Name: MIC29302WU; Device: MIC29302WU; LCSC Part Name: 3A Fast-Response LDO Regulator; Supplier Part: C2995533; Manufacturer Part: MIC29302WU; Supplier Footprint: TO-263; JLCPCB Part Class: Extended Part; Datasheet: https://atta.szlcsc.com/upload/public/pdf/source/20220414/64A379364ACD2069C59BD188E91B8798.pdf; Supplier: LCSC; Convert to PCB: yes
footprint MIC29302WU
pins: 1 EN, 2 IN, 3 GND, 4 OUT, 5 ADJ, 6 GND

## MMBF4117
designator Q?
N-Channel JFET; Published: 8-Jun-2000; LatestRevisionDate: 17-Jul-2002; LatestRevisionNote: Re-released for DXP Platform.; PackageReference: TO-254-AA; Publisher: Altium Limited; Code_JEDEC: TO-254-AA
footprint MMBF4117- SOT-23
pins: 1 S, 2 D, 3 G

## MMBT3904
designator Q?
footprint MMBT3904
pins: 1 B, 2 E, 3 C

## MMBT3906
designator Q?
footprint MMBT3906-SOT-23
pins: 1 B, 2 E, 3 C